# Altium integrated library ST Microcontroller 8-Bit.IntLib: 1326 symbols (part 9 of 31)
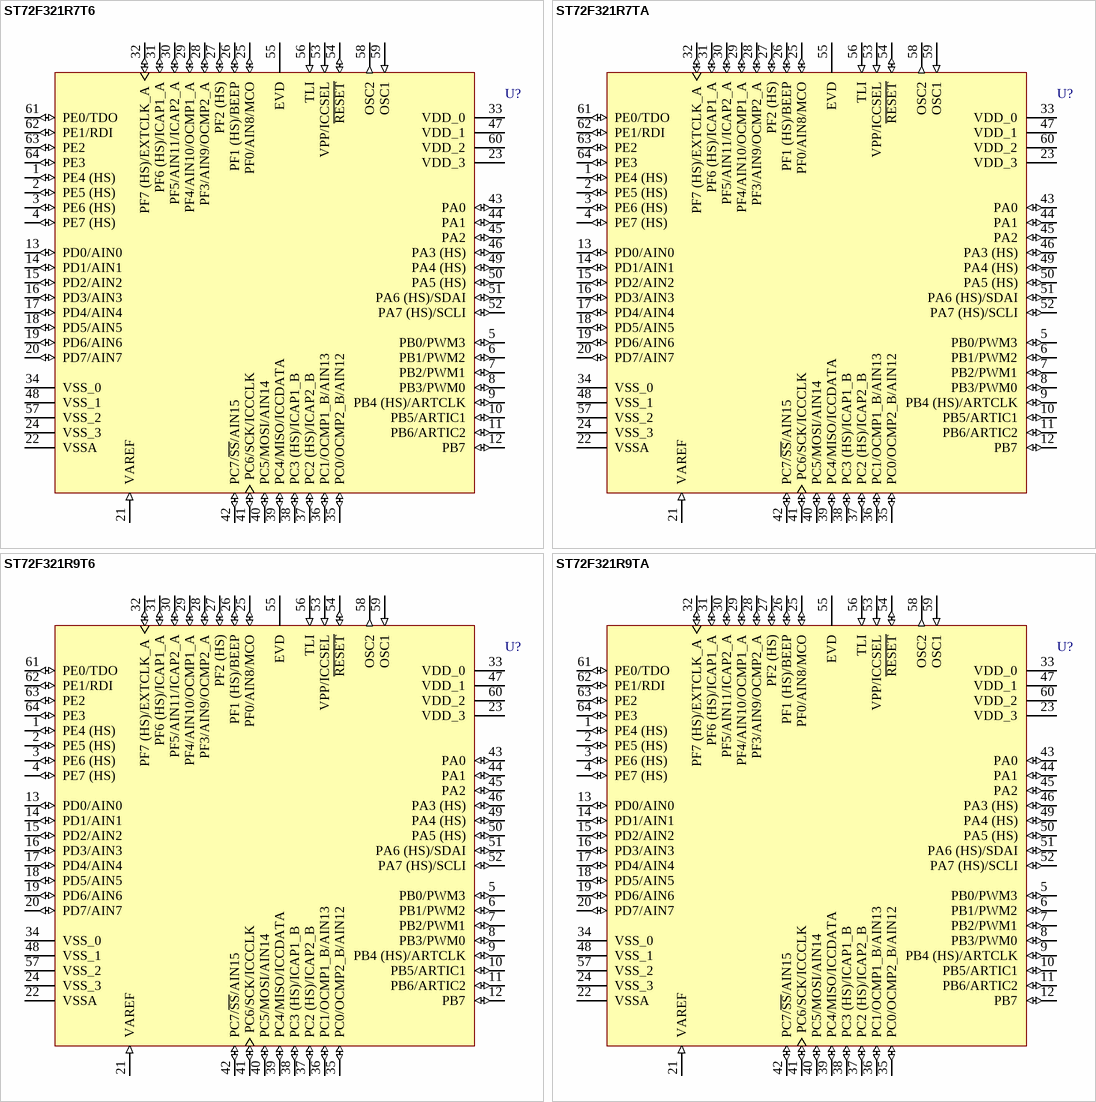
[diagram p175: symbols ST72F321R7T6 to ST72F321R9TA]

## ST72F321R7TA
designator U?
8-Bit 48k FLASH MCU with Nested Interrupts, 1536b RAM, 10-Bit ADC, Five Timers, SPI, SCI and I²C Interfaces, 64-Pin TQFP, Automotive; PackageDocument: rev2.4, Jan-2002; Note: Pins 5-12, 25-27 and 43-46 are External Interrupt (EI) pins.; Published: 26-May-2004; DatasheetDocument: rev1.9, Aug-2003; PackageReference: TQFP64-0.8; Publisher: Altium Limited
footprint TQFP64-0.8 (QFP, Thin; 64 Leads; Body 14 x 14 mm; Pitch 0.8 mm)
pins: 1 PE4 (HS) (io), 2 PE5 (HS) (io), 3 PE6 (HS) (io), 4 PE7 (HS) (io), 5 PB0/PWM3 (io), 6 PB1/PWM2 (io), 7 PB2/PWM1 (io), 8 PB3/PWM0 (io), 9 PB4 (HS)/ARTCLK (io), 10 PB5/ARTIC1 (io), 11 PB6/ARTIC2 (io), 12 PB7 (io), 13 PD0/AIN0 (io), 14 PD1/AIN1 (io), 15 PD2/AIN2 (io), 16 PD3/AIN3 (io), 17 PD4/AIN4 (io), 18 PD5/AIN5 (io), 19 PD6/AIN6 (io), 20 PD7/AIN7 (io), 21 VAREF (in), 22 VSSA (power), 23 VDD_3 (power), 24 VSS_3 (power), 25 PF0/AIN8/MCO (io), 26 PF1 (HS)/BEEP (io), 27 PF2 (HS) (io), 28 PF3/AIN9/OCMP2_A (io), 29 PF4/AIN10/OCMP1_A (io), 30 PF5/AIN11/ICAP2_A (io), 31 PF6 (HS)/ICAP1_A (io), 32 PF7 (HS)/EXTCLK_A (io), 33 VDD_0 (power), 34 VSS_0 (power), 35 PC0/OCMP2_B/AIN12 (io), 36 PC1/OCMP1_B/AIN13 (io), 37 PC2 (HS)/ICAP2_B (io), 38 PC3 (HS)/ICAP1_B (io), 39 PC4/MISO/ICCDATA (io), 40 PC5/MOSI/AIN14 (io), 41 PC6/SCK/ICCCLK (io), 42 PC7/~{SS}/AIN15 (io), 43 PA0 (io), 44 PA1 (io), 45 PA2 (io), 46 PA3 (HS) (io), 47 VDD_1 (power), 48 VSS_1 (power), 49 PA4 (HS) (io), 50 PA5 (HS) (io), 51 PA6 (HS)/SDAI (io), 52 PA7 (HS)/SCLI (io), 53 VPP/ICCSEL (in), 54 ~{RESET} (io), 55 EVD, 56 TLI (in), 57 VSS_2 (power), 58 OSC2 (out), 59 OSC1 (in), 60 VDD_2 (power), 61 PE0/TDO (io), 62 PE1/RDI (io), 63 PE2 (io), 64 PE3 (io)

## ST72F321R9T6
designator U?
8-Bit 60k FLASH MCU with Nested Interrupts, 2048b RAM, 10-Bit ADC, Five Timers, SPI, SCI and I²C Interfaces, 64-Pin TQFP, Standard; PackageDocument: rev2.4, Jan-2002; Note: Pins 5-12, 25-27 and 43-46 are External Interrupt (EI) pins.; Published: 26-May-2004; DatasheetDocument: rev1.9, Aug-2003; PackageReference: TQFP64-0.8; Publisher: Altium Limited
footprint TQFP64-0.8 (QFP, Thin; 64 Leads; Body 14 x 14 mm; Pitch 0.8 mm)
pins: 1 PE4 (HS) (io), 2 PE5 (HS) (io), 3 PE6 (HS) (io), 4 PE7 (HS) (io), 5 PB0/PWM3 (io), 6 PB1/PWM2 (io), 7 PB2/PWM1 (io), 8 PB3/PWM0 (io), 9 PB4 (HS)/ARTCLK (io), 10 PB5/ARTIC1 (io), 11 PB6/ARTIC2 (io), 12 PB7 (io), 13 PD0/AIN0 (io), 14 PD1/AIN1 (io), 15 PD2/AIN2 (io), 16 PD3/AIN3 (io), 17 PD4/AIN4 (io), 18 PD5/AIN5 (io), 19 PD6/AIN6 (io), 20 PD7/AIN7 (io), 21 VAREF (in), 22 VSSA (power), 23 VDD_3 (power), 24 VSS_3 (power), 25 PF0/AIN8/MCO (io), 26 PF1 (HS)/BEEP (io), 27 PF2 (HS) (io), 28 PF3/AIN9/OCMP2_A (io), 29 PF4/AIN10/OCMP1_A (io), 30 PF5/AIN11/ICAP2_A (io), 31 PF6 (HS)/ICAP1_A (io), 32 PF7 (HS)/EXTCLK_A (io), 33 VDD_0 (power), 34 VSS_0 (power), 35 PC0/OCMP2_B/AIN12 (io), 36 PC1/OCMP1_B/AIN13 (io), 37 PC2 (HS)/ICAP2_B (io), 38 PC3 (HS)/ICAP1_B (io), 39 PC4/MISO/ICCDATA (io), 40 PC5/MOSI/AIN14 (io), 41 PC6/SCK/ICCCLK (io), 42 PC7/~{SS}/AIN15 (io), 43 PA0 (io), 44 PA1 (io), 45 PA2 (io), 46 PA3 (HS) (io), 47 VDD_1 (power), 48 VSS_1 (power), 49 PA4 (HS) (io), 50 PA5 (HS) (io), 51 PA6 (HS)/SDAI (io), 52 PA7 (HS)/SCLI (io), 53 VPP/ICCSEL (in), 54 ~{RESET} (io), 55 EVD, 56 TLI (in), 57 VSS_2 (power), 58 OSC2 (out), 59 OSC1 (in), 60 VDD_2 (power), 61 PE0/TDO (io), 62 PE1/RDI (io), 63 PE2 (io), 64 PE3 (io)

## ST72F321R9TA
designator U?
8-Bit 60k FLASH MCU with Nested Interrupts, 2048b RAM, 10-Bit ADC, Five Timers, SPI, SCI and I²C Interfaces, 64-Pin TQFP, Automotive; PackageDocument: rev2.4, Jan-2002; Note: Pins 5-12, 25-27 and 43-46 are External Interrupt (EI) pins.; Published: 26-May-2004; DatasheetDocument: rev1.9, Aug-2003; PackageReference: TQFP64-0.8; Publisher: Altium Limited
footprint TQFP64-0.8 (QFP, Thin; 64 Leads; Body 14 x 14 mm; Pitch 0.8 mm)
pins: 1 PE4 (HS) (io), 2 PE5 (HS) (io), 3 PE6 (HS) (io), 4 PE7 (HS) (io), 5 PB0/PWM3 (io), 6 PB1/PWM2 (io), 7 PB2/PWM1 (io), 8 PB3/PWM0 (io), 9 PB4 (HS)/ARTCLK (io), 10 PB5/ARTIC1 (io), 11 PB6/ARTIC2 (io), 12 PB7 (io), 13 PD0/AIN0 (io), 14 PD1/AIN1 (io), 15 PD2/AIN2 (io), 16 PD3/AIN3 (io), 17 PD4/AIN4 (io), 18 PD5/AIN5 (io), 19 PD6/AIN6 (io), 20 PD7/AIN7 (io), 21 VAREF (in), 22 VSSA (power), 23 VDD_3 (power), 24 VSS_3 (power), 25 PF0/AIN8/MCO (io), 26 PF1 (HS)/BEEP (io), 27 PF2 (HS) (io), 28 PF3/AIN9/OCMP2_A (io), 29 PF4/AIN10/OCMP1_A (io), 30 PF5/AIN11/ICAP2_A (io), 31 PF6 (HS)/ICAP1_A (io), 32 PF7 (HS)/EXTCLK_A (io), 33 VDD_0 (power), 34 VSS_0 (power), 35 PC0/OCMP2_B/AIN12 (io), 36 PC1/OCMP1_B/AIN13 (io), 37 PC2 (HS)/ICAP2_B (io), 38 PC3 (HS)/ICAP1_B (io), 39 PC4/MISO/ICCDATA (io), 40 PC5/MOSI/AIN14 (io), 41 PC6/SCK/ICCCLK (io), 42 PC7/~{SS}/AIN15 (io), 43 PA0 (io), 44 PA1 (io), 45 PA2 (io), 46 PA3 (HS) (io), 47 VDD_1 (power), 48 VSS_1 (power), 49 PA4 (HS) (io), 50 PA5 (HS) (io), 51 PA6 (HS)/SDAI (io), 52 PA7 (HS)/SCLI (io), 53 VPP/ICCSEL (in), 54 ~{RESET} (io), 55 EVD, 56 TLI (in), 57 VSS_2 (power), 58 OSC2 (out), 59 OSC1 (in), 60 VDD_2 (power), 61 PE0/TDO (io), 62 PE1/RDI (io), 63 PE2 (io), 64 PE3 (io)

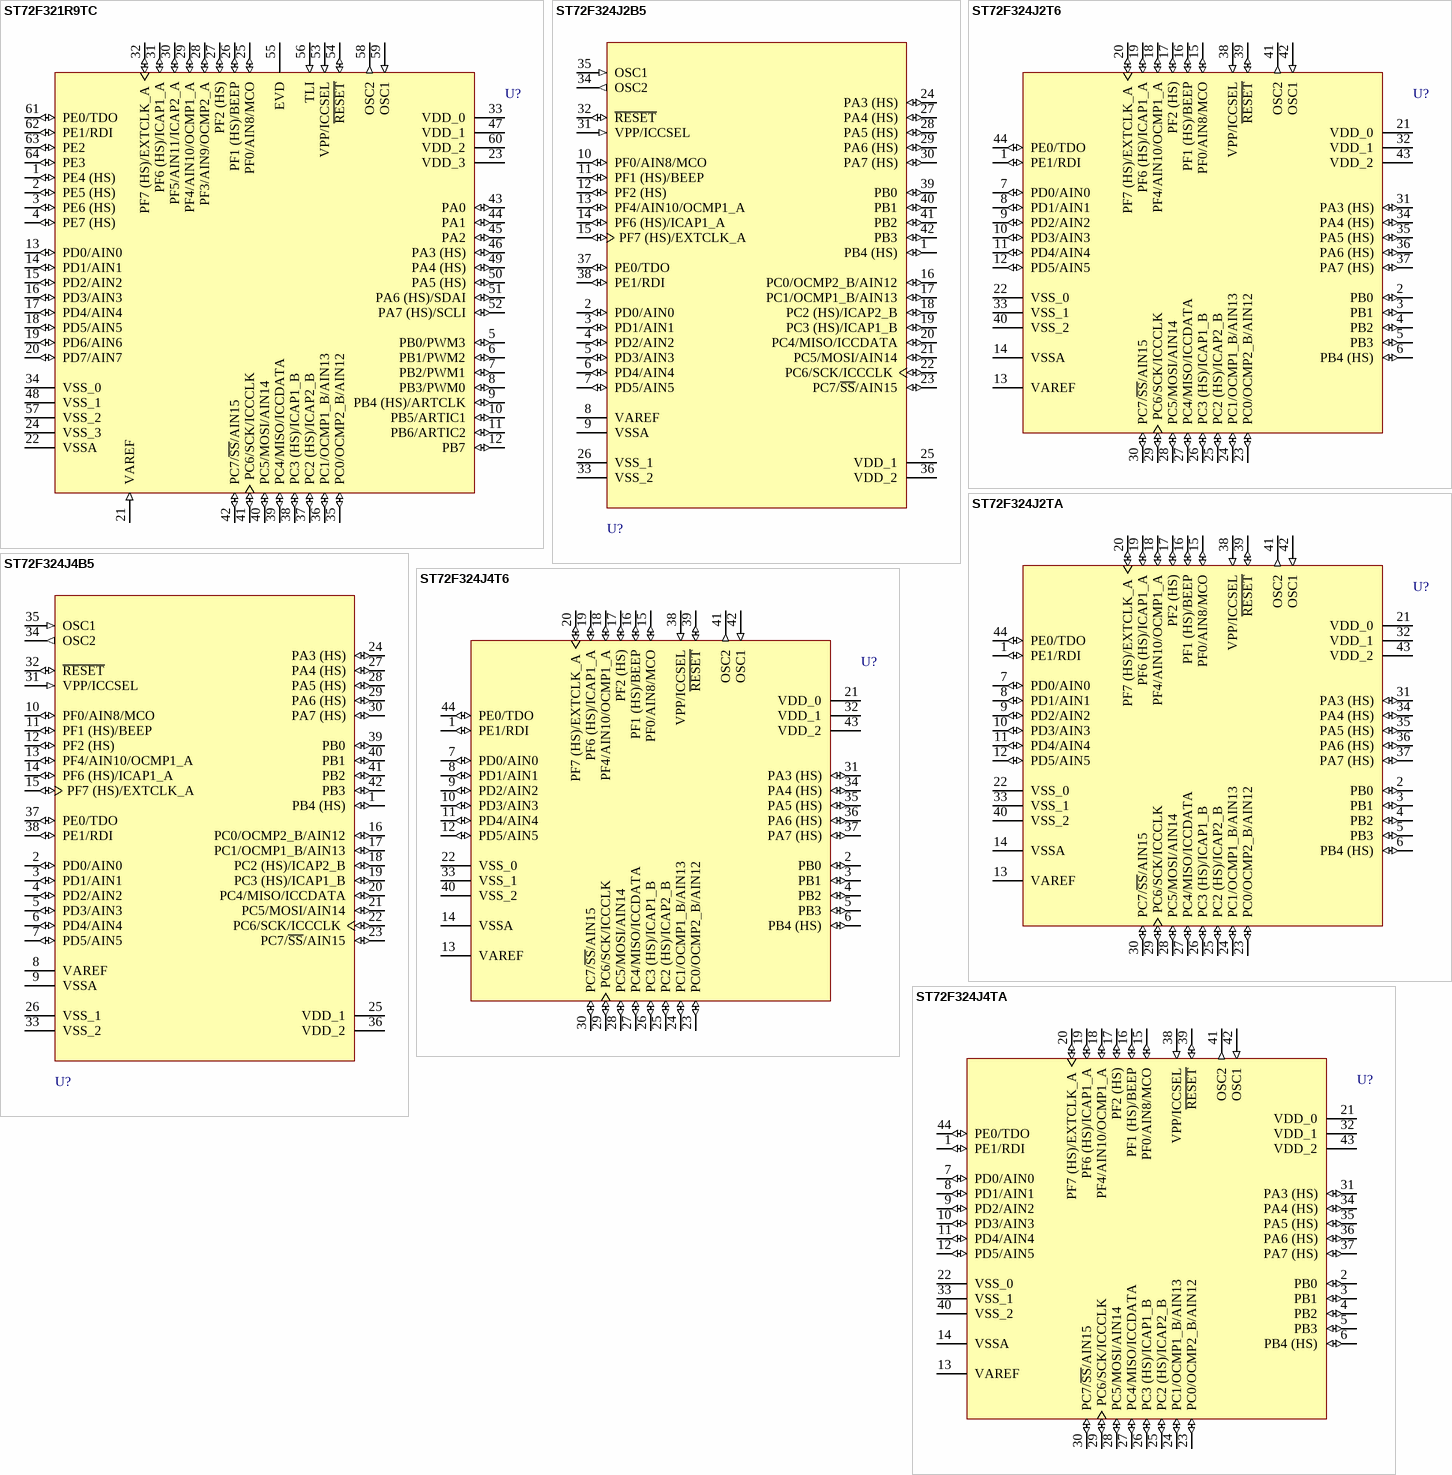
[diagram p39: symbols ST72F321R9TC to ST72F324J4TA]

## ST72F321R9TC
designator U?
8-Bit 60k FLASH MCU with Nested Interrupts, 2048b RAM, 10-Bit ADC, Five Timers, SPI, SCI and I²C Interfaces, 64-Pin TQFP, Automotive; PackageDocument: rev2.4, Jan-2002; Note: Pins 5-12, 25-27 and 43-46 are External Interrupt (EI) pins.; Published: 26-May-2004; DatasheetDocument: rev1.9, Aug-2003; PackageReference: TQFP64-0.8; Publisher: Altium Limited
footprint TQFP64-0.8 (QFP, Thin; 64 Leads; Body 14 x 14 mm; Pitch 0.8 mm)
pins: 1 PE4 (HS) (io), 2 PE5 (HS) (io), 3 PE6 (HS) (io), 4 PE7 (HS) (io), 5 PB0/PWM3 (io), 6 PB1/PWM2 (io), 7 PB2/PWM1 (io), 8 PB3/PWM0 (io), 9 PB4 (HS)/ARTCLK (io), 10 PB5/ARTIC1 (io), 11 PB6/ARTIC2 (io), 12 PB7 (io), 13 PD0/AIN0 (io), 14 PD1/AIN1 (io), 15 PD2/AIN2 (io), 16 PD3/AIN3 (io), 17 PD4/AIN4 (io), 18 PD5/AIN5 (io), 19 PD6/AIN6 (io), 20 PD7/AIN7 (io), 21 VAREF (in), 22 VSSA (power), 23 VDD_3 (power), 24 VSS_3 (power), 25 PF0/AIN8/MCO (io), 26 PF1 (HS)/BEEP (io), 27 PF2 (HS) (io), 28 PF3/AIN9/OCMP2_A (io), 29 PF4/AIN10/OCMP1_A (io), 30 PF5/AIN11/ICAP2_A (io), 31 PF6 (HS)/ICAP1_A (io), 32 PF7 (HS)/EXTCLK_A (io), 33 VDD_0 (power), 34 VSS_0 (power), 35 PC0/OCMP2_B/AIN12 (io), 36 PC1/OCMP1_B/AIN13 (io), 37 PC2 (HS)/ICAP2_B (io), 38 PC3 (HS)/ICAP1_B (io), 39 PC4/MISO/ICCDATA (io), 40 PC5/MOSI/AIN14 (io), 41 PC6/SCK/ICCCLK (io), 42 PC7/~{SS}/AIN15 (io), 43 PA0 (io), 44 PA1 (io), 45 PA2 (io), 46 PA3 (HS) (io), 47 VDD_1 (power), 48 VSS_1 (power), 49 PA4 (HS) (io), 50 PA5 (HS) (io), 51 PA6 (HS)/SDAI (io), 52 PA7 (HS)/SCLI (io), 53 VPP/ICCSEL (in), 54 ~{RESET} (io), 55 EVD, 56 TLI (in), 57 VSS_2 (power), 58 OSC2 (out), 59 OSC1 (in), 60 VDD_2 (power), 61 PE0/TDO (io), 62 PE1/RDI (io), 63 PE2 (io), 64 PE3 (io)

## ST72F324J2B5
designator U?
8-Bit 8k Flash MCU with Nested Interrupts, 384b RAM, 10-Bit ADC, Four Timers, SPI and SCI Interfaces, 42-Pin PDIP, Standard; Note: Pins 1, 6, 7, 19, 31 and 32 are External Interrupt (EI) pins.; Published: 26-May-2004; DatasheetDocument: rev1.9, Aug-2003; PackageDocument: Oct-2003; PackageReference: PSDIP42; Publisher: Altium Limited
footprint PSDIP42 (DIP, Plastic Shrink; 42 Leads; Row Spacing 15.24 mm; Pitch 1.78 mm)
pins: 1 PB4 (HS) (io), 2 PD0/AIN0 (io), 3 PD1/AIN1 (io), 4 PD2/AIN2 (io), 5 PD3/AIN3 (io), 6 PD4/AIN4 (io), 7 PD5/AIN5 (io), 8 VAREF (power), 9 VSSA (power), 10 PF0/AIN8/MCO (io), 11 PF1 (HS)/BEEP (io), 12 PF2 (HS) (io), 13 PF4/AIN10/OCMP1_A (io), 14 PF6 (HS)/ICAP1_A (io), 15 PF7 (HS)/EXTCLK_A (io), 16 PC0/OCMP2_B/AIN12 (io), 17 PC1/OCMP1_B/AIN13 (io), 18 PC2 (HS)/ICAP2_B (io), 19 PC3 (HS)/ICAP1_B (io), 20 PC4/MISO/ICCDATA (io), 21 PC5/MOSI/AIN14 (io), 22 PC6/SCK/ICCCLK (io), 23 PC7/~{SS}/AIN15 (io), 24 PA3 (HS) (io), 25 VDD_1 (power), 26 VSS_1 (power), 27 PA4 (HS) (io), 28 PA5 (HS) (io), 29 PA6 (HS) (io), 30 PA7 (HS) (io), 31 VPP/ICCSEL (in), 32 ~{RESET} (io), 33 VSS_2 (power), 34 OSC2 (out), 35 OSC1 (in), 36 VDD_2 (power), 37 PE0/TDO (io), 38 PE1/RDI (io), 39 PB0 (io), 40 PB1 (io), 41 PB2 (io), 42 PB3 (io)

## ST72F324J2T6
designator U?
8-Bit 8k Flash MCU with Nested Interrupts, 384b RAM, 10-Bit ADC, Four Timers, SPI and SCI Interfaces, 44-Pin TQFP, Standard; Note: Pins 2-6, 15-17 and 31 are External Interrupt (EI) pins.; Published: 26-May-2004; DatasheetDocument: rev1.9, Aug-2003; PackageDocument: Oct-2003; PackageReference: TQFP44; Publisher: Altium Limited
footprint TQFP44 (QFP, Plastic, Thin; 44 Leads; Body 10 x 10 mm; Pitch 0.8 mm)
pins: 1 PE1/RDI (io), 2 PB0 (io), 3 PB1 (io), 4 PB2 (io), 5 PB3 (io), 6 PB4 (HS) (io), 7 PD0/AIN0 (io), 8 PD1/AIN1 (io), 9 PD2/AIN2 (io), 10 PD3/AIN3 (io), 11 PD4/AIN4 (io), 12 PD5/AIN5 (io), 13 VAREF (power), 14 VSSA (power), 15 PF0/AIN8/MCO (io), 16 PF1 (HS)/BEEP (io), 17 PF2 (HS) (io), 18 PF4/AIN10/OCMP1_A (io), 19 PF6 (HS)/ICAP1_A (io), 20 PF7 (HS)/EXTCLK_A (io), 21 VDD_0 (power), 22 VSS_0 (power), 23 PC0/OCMP2_B/AIN12 (io), 24 PC1/OCMP1_B/AIN13 (io), 25 PC2 (HS)/ICAP2_B (io), 26 PC3 (HS)/ICAP1_B (io), 27 PC4/MISO/ICCDATA (io), 28 PC5/MOSI/AIN14 (io), 29 PC6/SCK/ICCCLK (io), 30 PC7/~{SS}/AIN15 (io), 31 PA3 (HS) (io), 32 VDD_1 (power), 33 VSS_1 (power), 34 PA4 (HS) (io), 35 PA5 (HS) (io), 36 PA6 (HS) (io), 37 PA7 (HS) (io), 38 VPP/ICCSEL (in), 39 ~{RESET} (io), 40 VSS_2 (power), 41 OSC2 (out), 42 OSC1 (in), 43 VDD_2 (power), 44 PE0/TDO (io)

## ST72F324J2TA
designator U?
8-Bit 8k Flash MCU with Nested Interrupts, 384b RAM, 10-Bit ADC, Four Timers, SPI and SCI Interfaces, 44-Pin TQFP, Automotive; Note: Pins 2-6, 15-17 and 31 are External Interrupt (EI) pins.; Published: 26-May-2004; DatasheetDocument: rev1.9, Aug-2003; PackageDocument: Oct-2003; PackageReference: TQFP44; Publisher: Altium Limited
footprint TQFP44 (QFP, Plastic, Thin; 44 Leads; Body 10 x 10 mm; Pitch 0.8 mm)
pins: 1 PE1/RDI (io), 2 PB0 (io), 3 PB1 (io), 4 PB2 (io), 5 PB3 (io), 6 PB4 (HS) (io), 7 PD0/AIN0 (io), 8 PD1/AIN1 (io), 9 PD2/AIN2 (io), 10 PD3/AIN3 (io), 11 PD4/AIN4 (io), 12 PD5/AIN5 (io), 13 VAREF (power), 14 VSSA (power), 15 PF0/AIN8/MCO (io), 16 PF1 (HS)/BEEP (io), 17 PF2 (HS) (io), 18 PF4/AIN10/OCMP1_A (io), 19 PF6 (HS)/ICAP1_A (io), 20 PF7 (HS)/EXTCLK_A (io), 21 VDD_0 (power), 22 VSS_0 (power), 23 PC0/OCMP2_B/AIN12 (io), 24 PC1/OCMP1_B/AIN13 (io), 25 PC2 (HS)/ICAP2_B (io), 26 PC3 (HS)/ICAP1_B (io), 27 PC4/MISO/ICCDATA (io), 28 PC5/MOSI/AIN14 (io), 29 PC6/SCK/ICCCLK (io), 30 PC7/~{SS}/AIN15 (io), 31 PA3 (HS) (io), 32 VDD_1 (power), 33 VSS_1 (power), 34 PA4 (HS) (io), 35 PA5 (HS) (io), 36 PA6 (HS) (io), 37 PA7 (HS) (io), 38 VPP/ICCSEL (in), 39 ~{RESET} (io), 40 VSS_2 (power), 41 OSC2 (out), 42 OSC1 (in), 43 VDD_2 (power), 44 PE0/TDO (io)

## ST72F324J4B5
designator U?
8-Bit 16k Flash MCU with Nested Interrupts, 512b RAM, 10-Bit ADC, Four Timers, SPI and SCI Interfaces, 42-Pin PDIP, Standard; Note: Pins 1, 6, 7, 19, 31 and 32 are External Interrupt (EI) pins.; Published: 26-May-2004; DatasheetDocument: rev1.9, Aug-2003; PackageDocument: Oct-2003; PackageReference: PSDIP42; Publisher: Altium Limited
footprint PSDIP42 (DIP, Plastic Shrink; 42 Leads; Row Spacing 15.24 mm; Pitch 1.78 mm)
pins: 1 PB4 (HS) (io), 2 PD0/AIN0 (io), 3 PD1/AIN1 (io), 4 PD2/AIN2 (io), 5 PD3/AIN3 (io), 6 PD4/AIN4 (io), 7 PD5/AIN5 (io), 8 VAREF (power), 9 VSSA (power), 10 PF0/AIN8/MCO (io), 11 PF1 (HS)/BEEP (io), 12 PF2 (HS) (io), 13 PF4/AIN10/OCMP1_A (io), 14 PF6 (HS)/ICAP1_A (io), 15 PF7 (HS)/EXTCLK_A (io), 16 PC0/OCMP2_B/AIN12 (io), 17 PC1/OCMP1_B/AIN13 (io), 18 PC2 (HS)/ICAP2_B (io), 19 PC3 (HS)/ICAP1_B (io), 20 PC4/MISO/ICCDATA (io), 21 PC5/MOSI/AIN14 (io), 22 PC6/SCK/ICCCLK (io), 23 PC7/~{SS}/AIN15 (io), 24 PA3 (HS) (io), 25 VDD_1 (power), 26 VSS_1 (power), 27 PA4 (HS) (io), 28 PA5 (HS) (io), 29 PA6 (HS) (io), 30 PA7 (HS) (io), 31 VPP/ICCSEL (in), 32 ~{RESET} (io), 33 VSS_2 (power), 34 OSC2 (out), 35 OSC1 (in), 36 VDD_2 (power), 37 PE0/TDO (io), 38 PE1/RDI (io), 39 PB0 (io), 40 PB1 (io), 41 PB2 (io), 42 PB3 (io)

## ST72F324J4T6
designator U?
8-Bit 16k Flash MCU with Nested Interrupts, 512b RAM, 10-Bit ADC, Four Timers, SPI and SCI Interfaces, 44-Pin TQFP, Standard; Note: Pins 2-6, 15-17 and 31 are External Interrupt (EI) pins.; Published: 26-May-2004; DatasheetDocument: rev1.9, Aug-2003; PackageDocument: Oct-2003; PackageReference: TQFP44; Publisher: Altium Limited
footprint TQFP44 (QFP, Plastic, Thin; 44 Leads; Body 10 x 10 mm; Pitch 0.8 mm)
pins: 1 PE1/RDI (io), 2 PB0 (io), 3 PB1 (io), 4 PB2 (io), 5 PB3 (io), 6 PB4 (HS) (io), 7 PD0/AIN0 (io), 8 PD1/AIN1 (io), 9 PD2/AIN2 (io), 10 PD3/AIN3 (io), 11 PD4/AIN4 (io), 12 PD5/AIN5 (io), 13 VAREF (power), 14 VSSA (power), 15 PF0/AIN8/MCO (io), 16 PF1 (HS)/BEEP (io), 17 PF2 (HS) (io), 18 PF4/AIN10/OCMP1_A (io), 19 PF6 (HS)/ICAP1_A (io), 20 PF7 (HS)/EXTCLK_A (io), 21 VDD_0 (power), 22 VSS_0 (power), 23 PC0/OCMP2_B/AIN12 (io), 24 PC1/OCMP1_B/AIN13 (io), 25 PC2 (HS)/ICAP2_B (io), 26 PC3 (HS)/ICAP1_B (io), 27 PC4/MISO/ICCDATA (io), 28 PC5/MOSI/AIN14 (io), 29 PC6/SCK/ICCCLK (io), 30 PC7/~{SS}/AIN15 (io), 31 PA3 (HS) (io), 32 VDD_1 (power), 33 VSS_1 (power), 34 PA4 (HS) (io), 35 PA5 (HS) (io), 36 PA6 (HS) (io), 37 PA7 (HS) (io), 38 VPP/ICCSEL (in), 39 ~{RESET} (io), 40 VSS_2 (power), 41 OSC2 (out), 42 OSC1 (in), 43 VDD_2 (power), 44 PE0/TDO (io)

## ST72F324J4TA
designator U?
8-Bit 16k Flash MCU with Nested Interrupts, 512b RAM, 10-Bit ADC, Four Timers, SPI and SCI Interfaces, 44-Pin TQFP, Automotive; Note: Pins 2-6, 15-17 and 31 are External Interrupt (EI) pins.; Published: 26-May-2004; DatasheetDocument: rev1.9, Aug-2003; PackageDocument: Oct-2003; PackageReference: TQFP44; Publisher: Altium Limited
footprint TQFP44 (QFP, Plastic, Thin; 44 Leads; Body 10 x 10 mm; Pitch 0.8 mm)
pins: 1 PE1/RDI (io), 2 PB0 (io), 3 PB1 (io), 4 PB2 (io), 5 PB3 (io), 6 PB4 (HS) (io), 7 PD0/AIN0 (io), 8 PD1/AIN1 (io), 9 PD2/AIN2 (io), 10 PD3/AIN3 (io), 11 PD4/AIN4 (io), 12 PD5/AIN5 (io), 13 VAREF (power), 14 VSSA (power), 15 PF0/AIN8/MCO (io), 16 PF1 (HS)/BEEP (io), 17 PF2 (HS) (io), 18 PF4/AIN10/OCMP1_A (io), 19 PF6 (HS)/ICAP1_A (io), 20 PF7 (HS)/EXTCLK_A (io), 21 VDD_0 (power), 22 VSS_0 (power), 23 PC0/OCMP2_B/AIN12 (io), 24 PC1/OCMP1_B/AIN13 (io), 25 PC2 (HS)/ICAP2_B (io), 26 PC3 (HS)/ICAP1_B (io), 27 PC4/MISO/ICCDATA (io), 28 PC5/MOSI/AIN14 (io), 29 PC6/SCK/ICCCLK (io), 30 PC7/~{SS}/AIN15 (io), 31 PA3 (HS) (io), 32 VDD_1 (power), 33 VSS_1 (power), 34 PA4 (HS) (io), 35 PA5 (HS) (io), 36 PA6 (HS) (io), 37 PA7 (HS) (io), 38 VPP/ICCSEL (in), 39 ~{RESET} (io), 40 VSS_2 (power), 41 OSC2 (out), 42 OSC1 (in), 43 VDD_2 (power), 44 PE0/TDO (io)

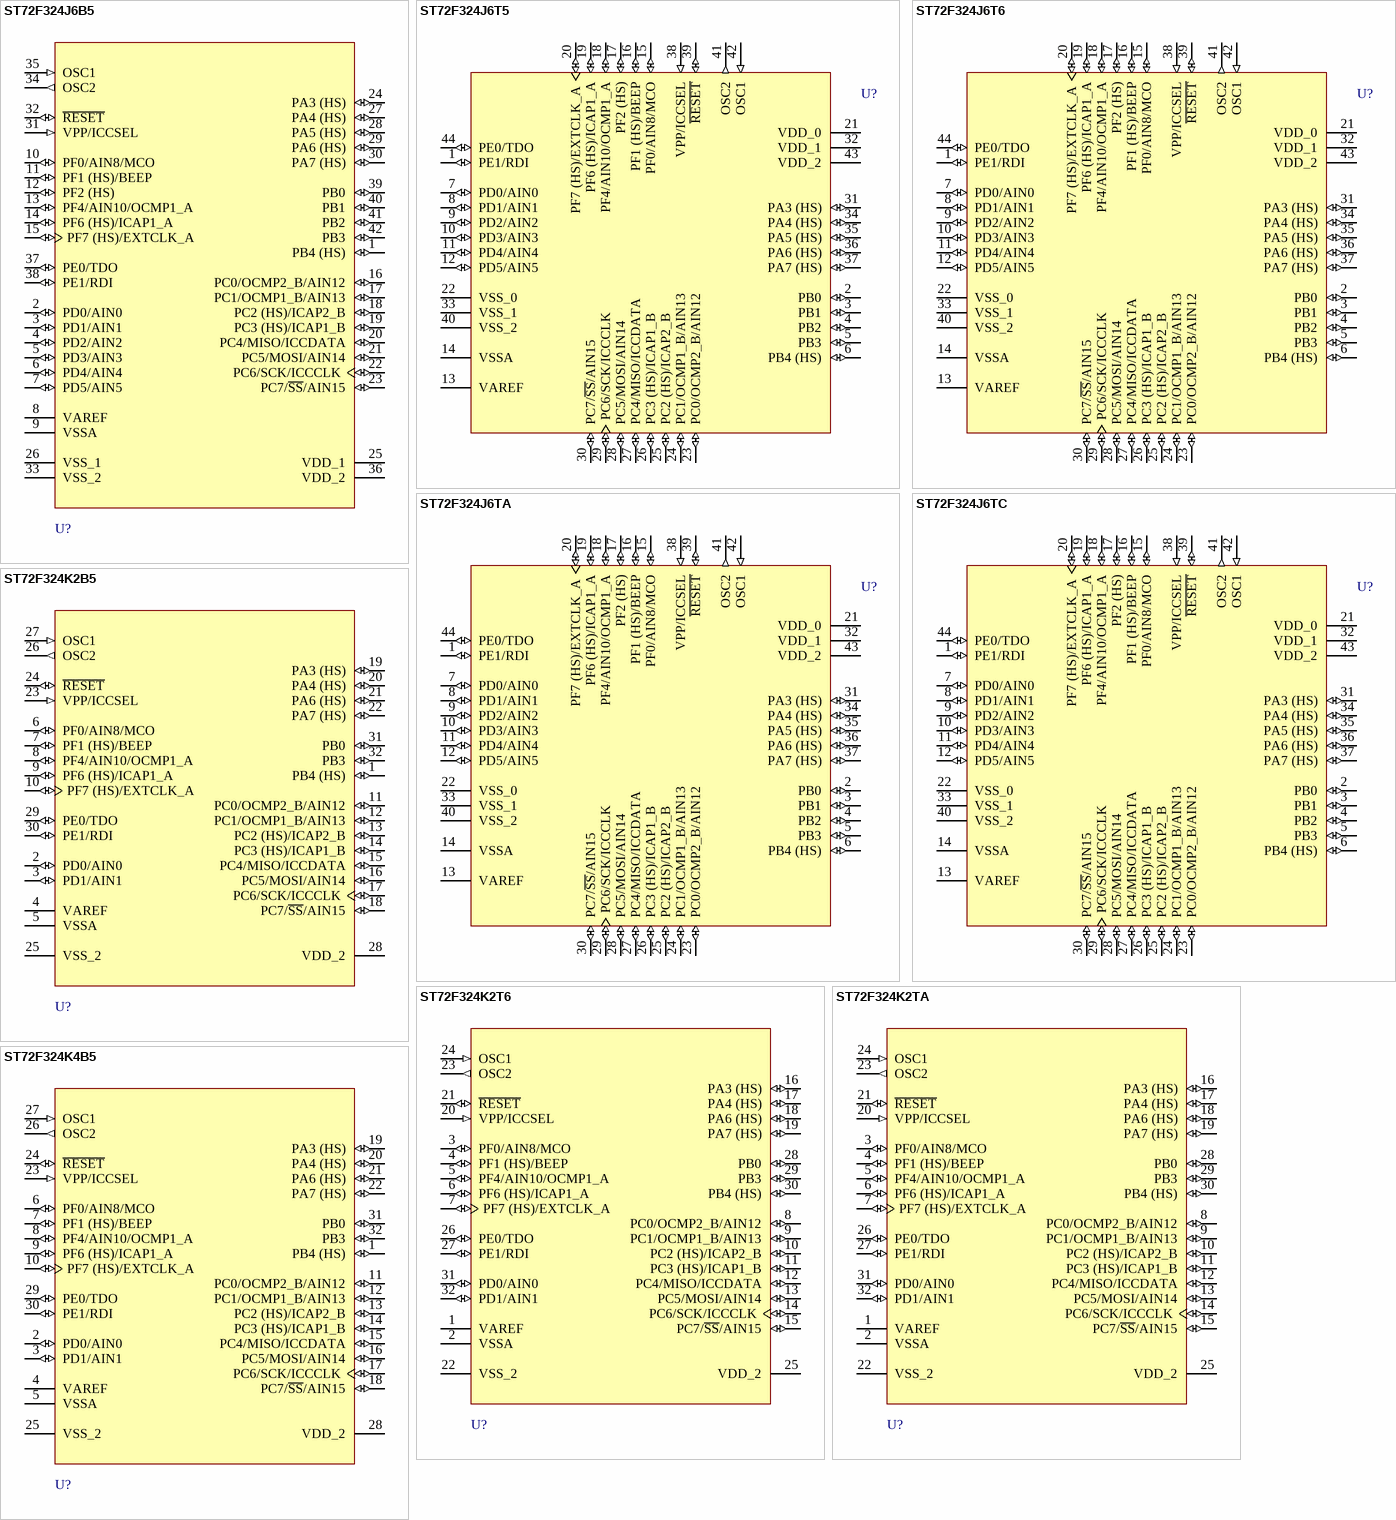
[diagram p40: symbols ST72F324J6B5 to ST72F324K4B5]

## ST72F324J6B5
designator U?
8-Bit 32k Flash MCU with Nested Interrupts, 1024b RAM, 10-Bit ADC, Four Timers, SPI and SCI Interfaces, 42-Pin PDIP, Standard; Note: Pins 1, 6, 7, 19, 31 and 32 are External Interrupt (EI) pins.; Published: 26-May-2004; DatasheetDocument: rev1.9, Aug-2003; PackageDocument: Oct-2003; PackageReference: PSDIP42; Publisher: Altium Limited
footprint PSDIP42 (DIP, Plastic Shrink; 42 Leads; Row Spacing 15.24 mm; Pitch 1.78 mm)
pins: 1 PB4 (HS) (io), 2 PD0/AIN0 (io), 3 PD1/AIN1 (io), 4 PD2/AIN2 (io), 5 PD3/AIN3 (io), 6 PD4/AIN4 (io), 7 PD5/AIN5 (io), 8 VAREF (power), 9 VSSA (power), 10 PF0/AIN8/MCO (io), 11 PF1 (HS)/BEEP (io), 12 PF2 (HS) (io), 13 PF4/AIN10/OCMP1_A (io), 14 PF6 (HS)/ICAP1_A (io), 15 PF7 (HS)/EXTCLK_A (io), 16 PC0/OCMP2_B/AIN12 (io), 17 PC1/OCMP1_B/AIN13 (io), 18 PC2 (HS)/ICAP2_B (io), 19 PC3 (HS)/ICAP1_B (io), 20 PC4/MISO/ICCDATA (io), 21 PC5/MOSI/AIN14 (io), 22 PC6/SCK/ICCCLK (io), 23 PC7/~{SS}/AIN15 (io), 24 PA3 (HS) (io), 25 VDD_1 (power), 26 VSS_1 (power), 27 PA4 (HS) (io), 28 PA5 (HS) (io), 29 PA6 (HS) (io), 30 PA7 (HS) (io), 31 VPP/ICCSEL (in), 32 ~{RESET} (io), 33 VSS_2 (power), 34 OSC2 (out), 35 OSC1 (in), 36 VDD_2 (power), 37 PE0/TDO (io), 38 PE1/RDI (io), 39 PB0 (io), 40 PB1 (io), 41 PB2 (io), 42 PB3 (io)

## ST72F324J6T5
designator U?
8-Bit 32k Flash MCU with Nested Interrupts, 1024b RAM, 10-Bit ADC, Four Timers, SPI and SCI Interfaces, 44-Pin TQFP, Standard; Note: Pins 2-6, 15-17 and 31 are External Interrupt (EI) pins.; Published: 26-May-2004; DatasheetDocument: rev1.9, Aug-2003; PackageDocument: Oct-2003; PackageReference: TQFP44; Publisher: Altium Limited
footprint TQFP44 (QFP, Plastic, Thin; 44 Leads; Body 10 x 10 mm; Pitch 0.8 mm)
pins: 1 PE1/RDI (io), 2 PB0 (io), 3 PB1 (io), 4 PB2 (io), 5 PB3 (io), 6 PB4 (HS) (io), 7 PD0/AIN0 (io), 8 PD1/AIN1 (io), 9 PD2/AIN2 (io), 10 PD3/AIN3 (io), 11 PD4/AIN4 (io), 12 PD5/AIN5 (io), 13 VAREF (power), 14 VSSA (power), 15 PF0/AIN8/MCO (io), 16 PF1 (HS)/BEEP (io), 17 PF2 (HS) (io), 18 PF4/AIN10/OCMP1_A (io), 19 PF6 (HS)/ICAP1_A (io), 20 PF7 (HS)/EXTCLK_A (io), 21 VDD_0 (power), 22 VSS_0 (power), 23 PC0/OCMP2_B/AIN12 (io), 24 PC1/OCMP1_B/AIN13 (io), 25 PC2 (HS)/ICAP2_B (io), 26 PC3 (HS)/ICAP1_B (io), 27 PC4/MISO/ICCDATA (io), 28 PC5/MOSI/AIN14 (io), 29 PC6/SCK/ICCCLK (io), 30 PC7/~{SS}/AIN15 (io), 31 PA3 (HS) (io), 32 VDD_1 (power), 33 VSS_1 (power), 34 PA4 (HS) (io), 35 PA5 (HS) (io), 36 PA6 (HS) (io), 37 PA7 (HS) (io), 38 VPP/ICCSEL (in), 39 ~{RESET} (io), 40 VSS_2 (power), 41 OSC2 (out), 42 OSC1 (in), 43 VDD_2 (power), 44 PE0/TDO (io)

## ST72F324J6T6
designator U?
8-Bit 32k Flash MCU with Nested Interrupts, 1024b RAM, 10-Bit ADC, Four Timers, SPI and SCI Interfaces, 44-Pin TQFP, Standard; Note: Pins 2-6, 15-17 and 31 are External Interrupt (EI) pins.; Published: 26-May-2004; DatasheetDocument: rev1.9, Aug-2003; PackageDocument: Oct-2003; PackageReference: TQFP44; Publisher: Altium Limited
footprint TQFP44 (QFP, Plastic, Thin; 44 Leads; Body 10 x 10 mm; Pitch 0.8 mm)
pins: 1 PE1/RDI (io), 2 PB0 (io), 3 PB1 (io), 4 PB2 (io), 5 PB3 (io), 6 PB4 (HS) (io), 7 PD0/AIN0 (io), 8 PD1/AIN1 (io), 9 PD2/AIN2 (io), 10 PD3/AIN3 (io), 11 PD4/AIN4 (io), 12 PD5/AIN5 (io), 13 VAREF (power), 14 VSSA (power), 15 PF0/AIN8/MCO (io), 16 PF1 (HS)/BEEP (io), 17 PF2 (HS) (io), 18 PF4/AIN10/OCMP1_A (io), 19 PF6 (HS)/ICAP1_A (io), 20 PF7 (HS)/EXTCLK_A (io), 21 VDD_0 (power), 22 VSS_0 (power), 23 PC0/OCMP2_B/AIN12 (io), 24 PC1/OCMP1_B/AIN13 (io), 25 PC2 (HS)/ICAP2_B (io), 26 PC3 (HS)/ICAP1_B (io), 27 PC4/MISO/ICCDATA (io), 28 PC5/MOSI/AIN14 (io), 29 PC6/SCK/ICCCLK (io), 30 PC7/~{SS}/AIN15 (io), 31 PA3 (HS) (io), 32 VDD_1 (power), 33 VSS_1 (power), 34 PA4 (HS) (io), 35 PA5 (HS) (io), 36 PA6 (HS) (io), 37 PA7 (HS) (io), 38 VPP/ICCSEL (in), 39 ~{RESET} (io), 40 VSS_2 (power), 41 OSC2 (out), 42 OSC1 (in), 43 VDD_2 (power), 44 PE0/TDO (io)

## ST72F324J6TA
designator U?
8-Bit 32k Flash MCU with Nested Interrupts, 1024b RAM, 10-Bit ADC, Four Timers, SPI and SCI Interfaces, 44-Pin TQFP, Automotive; Note: Pins 2-6, 15-17 and 31 are External Interrupt (EI) pins.; Published: 26-May-2004; DatasheetDocument: rev1.9, Aug-2003; PackageDocument: Oct-2003; PackageReference: TQFP44; Publisher: Altium Limited
footprint TQFP44 (QFP, Plastic, Thin; 44 Leads; Body 10 x 10 mm; Pitch 0.8 mm)
pins: 1 PE1/RDI (io), 2 PB0 (io), 3 PB1 (io), 4 PB2 (io), 5 PB3 (io), 6 PB4 (HS) (io), 7 PD0/AIN0 (io), 8 PD1/AIN1 (io), 9 PD2/AIN2 (io), 10 PD3/AIN3 (io), 11 PD4/AIN4 (io), 12 PD5/AIN5 (io), 13 VAREF (power), 14 VSSA (power), 15 PF0/AIN8/MCO (io), 16 PF1 (HS)/BEEP (io), 17 PF2 (HS) (io), 18 PF4/AIN10/OCMP1_A (io), 19 PF6 (HS)/ICAP1_A (io), 20 PF7 (HS)/EXTCLK_A (io), 21 VDD_0 (power), 22 VSS_0 (power), 23 PC0/OCMP2_B/AIN12 (io), 24 PC1/OCMP1_B/AIN13 (io), 25 PC2 (HS)/ICAP2_B (io), 26 PC3 (HS)/ICAP1_B (io), 27 PC4/MISO/ICCDATA (io), 28 PC5/MOSI/AIN14 (io), 29 PC6/SCK/ICCCLK (io), 30 PC7/~{SS}/AIN15 (io), 31 PA3 (HS) (io), 32 VDD_1 (power), 33 VSS_1 (power), 34 PA4 (HS) (io), 35 PA5 (HS) (io), 36 PA6 (HS) (io), 37 PA7 (HS) (io), 38 VPP/ICCSEL (in), 39 ~{RESET} (io), 40 VSS_2 (power), 41 OSC2 (out), 42 OSC1 (in), 43 VDD_2 (power), 44 PE0/TDO (io)

## ST72F324J6TC
designator U?
8-Bit 32k Flash MCU with Nested Interrupts, 1024b RAM, 10-Bit ADC, Four Timers, SPI and SCI Interfaces, 44-Pin TQFP, Automotive; Note: Pins 2-6, 15-17 and 31 are External Interrupt (EI) pins.; Published: 26-May-2004; DatasheetDocument: rev1.9, Aug-2003; PackageDocument: Oct-2003; PackageReference: TQFP44; Publisher: Altium Limited
footprint TQFP44 (QFP, Plastic, Thin; 44 Leads; Body 10 x 10 mm; Pitch 0.8 mm)
pins: 1 PE1/RDI (io), 2 PB0 (io), 3 PB1 (io), 4 PB2 (io), 5 PB3 (io), 6 PB4 (HS) (io), 7 PD0/AIN0 (io), 8 PD1/AIN1 (io), 9 PD2/AIN2 (io), 10 PD3/AIN3 (io), 11 PD4/AIN4 (io), 12 PD5/AIN5 (io), 13 VAREF (power), 14 VSSA (power), 15 PF0/AIN8/MCO (io), 16 PF1 (HS)/BEEP (io), 17 PF2 (HS) (io), 18 PF4/AIN10/OCMP1_A (io), 19 PF6 (HS)/ICAP1_A (io), 20 PF7 (HS)/EXTCLK_A (io), 21 VDD_0 (power), 22 VSS_0 (power), 23 PC0/OCMP2_B/AIN12 (io), 24 PC1/OCMP1_B/AIN13 (io), 25 PC2 (HS)/ICAP2_B (io), 26 PC3 (HS)/ICAP1_B (io), 27 PC4/MISO/ICCDATA (io), 28 PC5/MOSI/AIN14 (io), 29 PC6/SCK/ICCCLK (io), 30 PC7/~{SS}/AIN15 (io), 31 PA3 (HS) (io), 32 VDD_1 (power), 33 VSS_1 (power), 34 PA4 (HS) (io), 35 PA5 (HS) (io), 36 PA6 (HS) (io), 37 PA7 (HS) (io), 38 VPP/ICCSEL (in), 39 ~{RESET} (io), 40 VSS_2 (power), 41 OSC2 (out), 42 OSC1 (in), 43 VDD_2 (power), 44 PE0/TDO (io)

## ST72F324K2B5
designator U?
8-Bit 8k Flash MCU with Nested Interrupts, 384b RAM, 10-Bit ADC, Four Timers, SPI and SCI Interfaces, 32-Pin PDIP, Standard; PackageDocument: rev1.7, Oct-2001; Note: Pins 1, 6, 7, 19, 31 and 32 are External Interrupt (EI) pins.; Published: 26-May-2004; DatasheetDocument: rev1.9, Aug-2003; PackageReference: PSDIP32; Publisher: Altium Limited
footprint PSDIP32 (DIP, Plastic Shrink; 32 Leads; Row Spacing 10.16 mm; Pitch 1.78 mm)
pins: 1 PB4 (HS) (io), 2 PD0/AIN0 (io), 3 PD1/AIN1 (io), 4 VAREF (power), 5 VSSA (power), 6 PF0/AIN8/MCO (io), 7 PF1 (HS)/BEEP (io), 8 PF4/AIN10/OCMP1_A (io), 9 PF6 (HS)/ICAP1_A (io), 10 PF7 (HS)/EXTCLK_A (io), 11 PC0/OCMP2_B/AIN12 (io), 12 PC1/OCMP1_B/AIN13 (io), 13 PC2 (HS)/ICAP2_B (io), 14 PC3 (HS)/ICAP1_B (io), 15 PC4/MISO/ICCDATA (io), 16 PC5/MOSI/AIN14 (io), 17 PC6/SCK/ICCCLK (io), 18 PC7/~{SS}/AIN15 (io), 19 PA3 (HS) (io), 20 PA4 (HS) (io), 21 PA6 (HS) (io), 22 PA7 (HS) (io), 23 VPP/ICCSEL (in), 24 ~{RESET} (io), 25 VSS_2 (power), 26 OSC2 (out), 27 OSC1 (in), 28 VDD_2 (power), 29 PE0/TDO (io), 30 PE1/RDI (io), 31 PB0 (io), 32 PB3 (io)

## ST72F324K2T6
designator U?
8-Bit 8k Flash MCU with Nested Interrupts, 384b RAM, 10-Bit ADC, Four Timers, SPI and SCI Interfaces, 32-Pin TQFP, Standard; Note: Pins 3, 4, 16 and 28-30 are External Interrupt (EI) pins.; Published: 26-May-2004; DatasheetDocument: rev1.9, Aug-2003; PackageDocument: Oct-1997; PackageReference: TQFP32; Publisher: Altium Limited
footprint TQFP32 (QFP; 32 Leads; Body 7 x 7 mm; Pitch 0.8 mm)
pins: 1 VAREF (power), 2 VSSA (power), 3 PF0/AIN8/MCO (io), 4 PF1 (HS)/BEEP (io), 5 PF4/AIN10/OCMP1_A (io), 6 PF6 (HS)/ICAP1_A (io), 7 PF7 (HS)/EXTCLK_A (io), 8 PC0/OCMP2_B/AIN12 (io), 9 PC1/OCMP1_B/AIN13 (io), 10 PC2 (HS)/ICAP2_B (io), 11 PC3 (HS)/ICAP1_B (io), 12 PC4/MISO/ICCDATA (io), 13 PC5/MOSI/AIN14 (io), 14 PC6/SCK/ICCCLK (io), 15 PC7/~{SS}/AIN15 (io), 16 PA3 (HS) (io), 17 PA4 (HS) (io), 18 PA6 (HS) (io), 19 PA7 (HS) (io), 20 VPP/ICCSEL (in), 21 ~{RESET} (io), 22 VSS_2 (power), 23 OSC2 (out), 24 OSC1 (in), 25 VDD_2 (power), 26 PE0/TDO (io), 27 PE1/RDI (io), 28 PB0 (io), 29 PB3 (io), 30 PB4 (HS) (io), 31 PD0/AIN0 (io), 32 PD1/AIN1 (io)

## ST72F324K2TA
designator U?
8-Bit 8k Flash MCU with Nested Interrupts, 384b RAM, 10-Bit ADC, Four Timers, SPI and SCI Interfaces, 32-Pin TQFP, Automotive; Note: Pins 3, 4, 16 and 28-30 are External Interrupt (EI) pins.; Published: 26-May-2004; DatasheetDocument: rev1.9, Aug-2003; PackageDocument: Oct-1997; PackageReference: TQFP32; Publisher: Altium Limited
footprint TQFP32 (QFP; 32 Leads; Body 7 x 7 mm; Pitch 0.8 mm)
pins: 1 VAREF (power), 2 VSSA (power), 3 PF0/AIN8/MCO (io), 4 PF1 (HS)/BEEP (io), 5 PF4/AIN10/OCMP1_A (io), 6 PF6 (HS)/ICAP1_A (io), 7 PF7 (HS)/EXTCLK_A (io), 8 PC0/OCMP2_B/AIN12 (io), 9 PC1/OCMP1_B/AIN13 (io), 10 PC2 (HS)/ICAP2_B (io), 11 PC3 (HS)/ICAP1_B (io), 12 PC4/MISO/ICCDATA (io), 13 PC5/MOSI/AIN14 (io), 14 PC6/SCK/ICCCLK (io), 15 PC7/~{SS}/AIN15 (io), 16 PA3 (HS) (io), 17 PA4 (HS) (io), 18 PA6 (HS) (io), 19 PA7 (HS) (io), 20 VPP/ICCSEL (in), 21 ~{RESET} (io), 22 VSS_2 (power), 23 OSC2 (out), 24 OSC1 (in), 25 VDD_2 (power), 26 PE0/TDO (io), 27 PE1/RDI (io), 28 PB0 (io), 29 PB3 (io), 30 PB4 (HS) (io), 31 PD0/AIN0 (io), 32 PD1/AIN1 (io)

## ST72F324K4B5
designator U?
8-Bit 16k Flash MCU with Nested Interrupts, 512b RAM, 10-Bit ADC, Four Timers, SPI and SCI Interfaces, 32-Pin PDIP, Standard; PackageDocument: rev1.7, Oct-2001; Note: Pins 1, 6, 7, 19, 31 and 32 are External Interrupt (EI) pins.; Published: 26-May-2004; DatasheetDocument: rev1.9, Aug-2003; PackageReference: PSDIP32; Publisher: Altium Limited
footprint PSDIP32 (DIP, Plastic Shrink; 32 Leads; Row Spacing 10.16 mm; Pitch 1.78 mm)
pins: 1 PB4 (HS) (io), 2 PD0/AIN0 (io), 3 PD1/AIN1 (io), 4 VAREF (power), 5 VSSA (power), 6 PF0/AIN8/MCO (io), 7 PF1 (HS)/BEEP (io), 8 PF4/AIN10/OCMP1_A (io), 9 PF6 (HS)/ICAP1_A (io), 10 PF7 (HS)/EXTCLK_A (io), 11 PC0/OCMP2_B/AIN12 (io), 12 PC1/OCMP1_B/AIN13 (io), 13 PC2 (HS)/ICAP2_B (io), 14 PC3 (HS)/ICAP1_B (io), 15 PC4/MISO/ICCDATA (io), 16 PC5/MOSI/AIN14 (io), 17 PC6/SCK/ICCCLK (io), 18 PC7/~{SS}/AIN15 (io), 19 PA3 (HS) (io), 20 PA4 (HS) (io), 21 PA6 (HS) (io), 22 PA7 (HS) (io), 23 VPP/ICCSEL (in), 24 ~{RESET} (io), 25 VSS_2 (power), 26 OSC2 (out), 27 OSC1 (in), 28 VDD_2 (power), 29 PE0/TDO (io), 30 PE1/RDI (io), 31 PB0 (io), 32 PB3 (io)

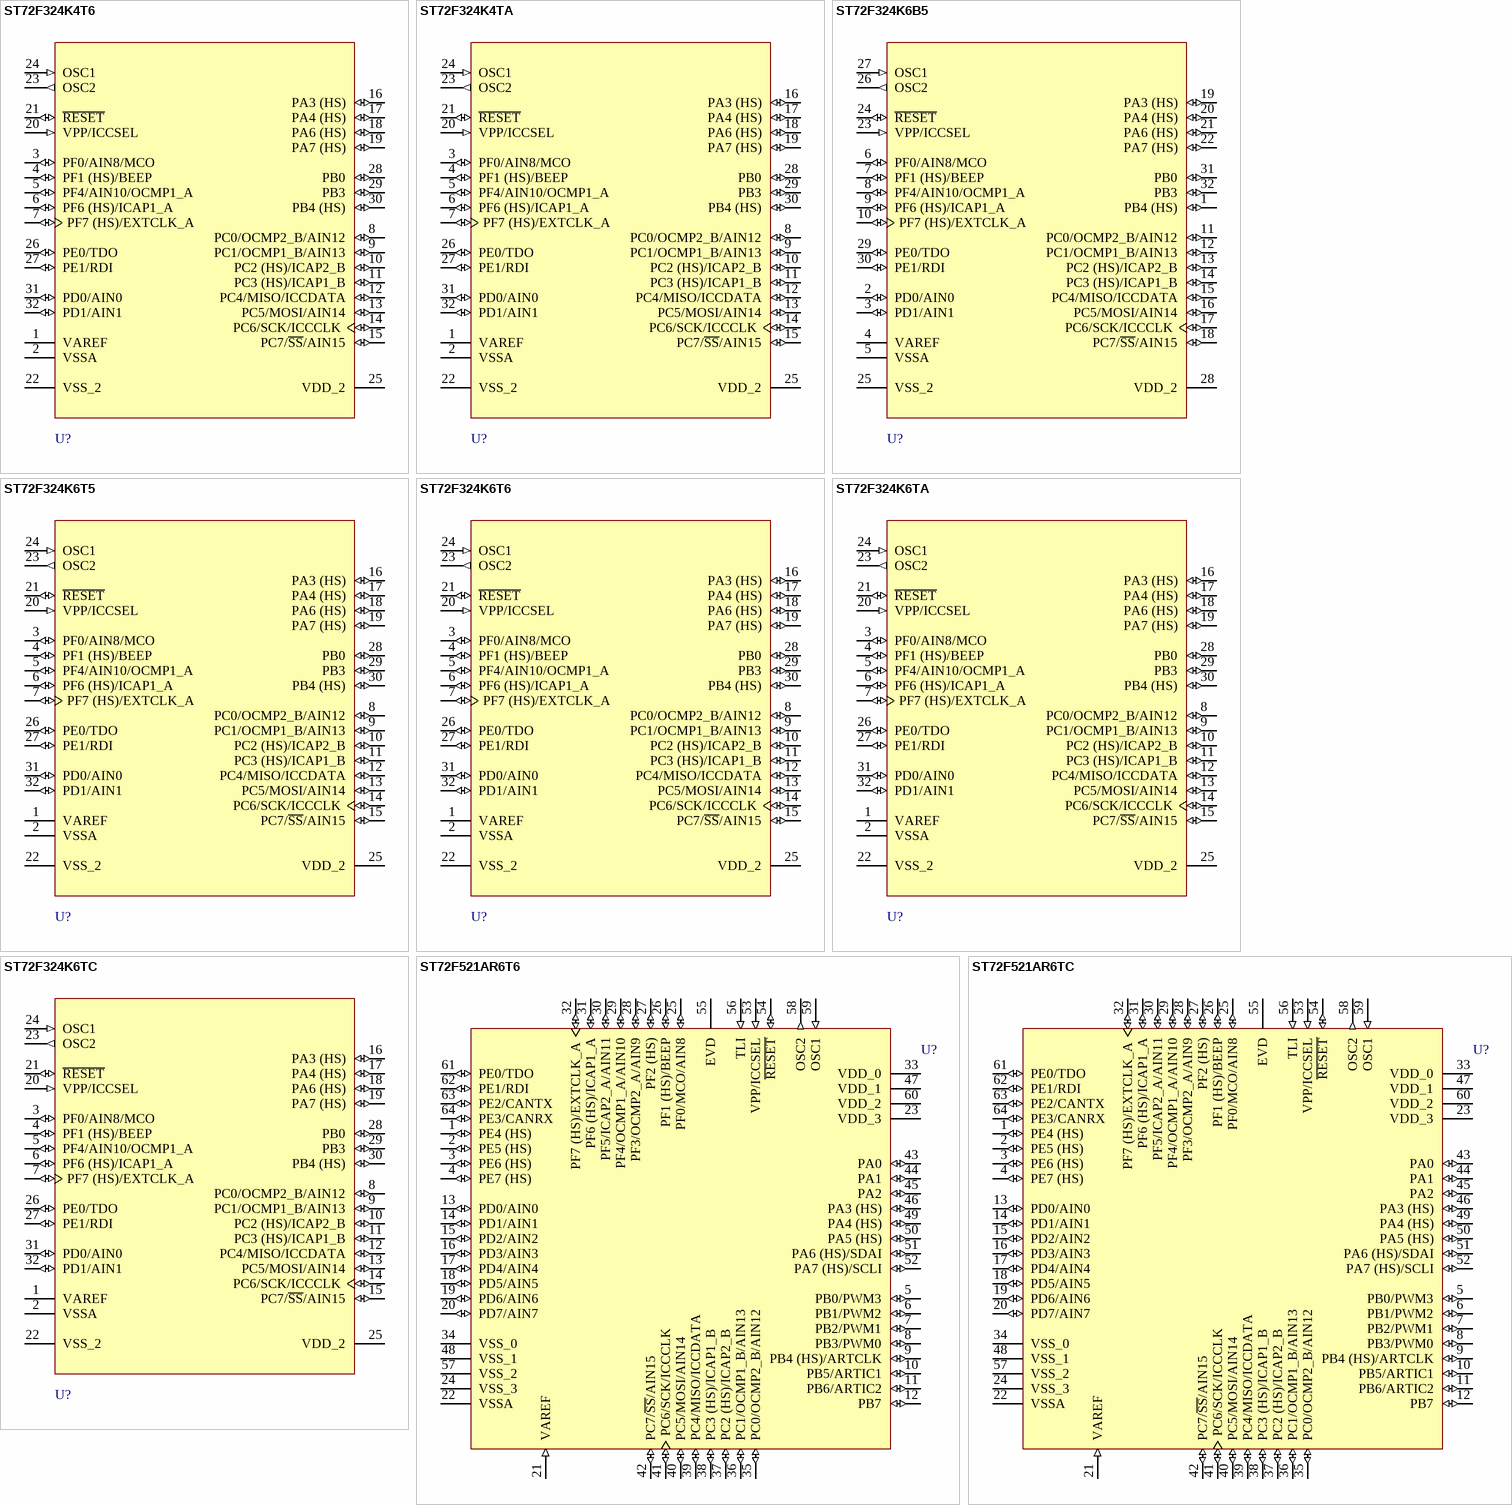
[diagram p41: symbols ST72F324K4T6 to ST72F521AR6TC]

## ST72F324K4T6
designator U?
8-Bit 16k Flash MCU with Nested Interrupts, 512b RAM, 10-Bit ADC, Four Timers, SPI and SCI Interfaces, 32-Pin TQFP, Standard; Note: Pins 3, 4, 16 and 28-30 are External Interrupt (EI) pins.; Published: 26-May-2004; DatasheetDocument: rev1.9, Aug-2003; PackageDocument: Oct-1997; PackageReference: TQFP32; Publisher: Altium Limited
footprint TQFP32 (QFP; 32 Leads; Body 7 x 7 mm; Pitch 0.8 mm)
pins: 1 VAREF (power), 2 VSSA (power), 3 PF0/AIN8/MCO (io), 4 PF1 (HS)/BEEP (io), 5 PF4/AIN10/OCMP1_A (io), 6 PF6 (HS)/ICAP1_A (io), 7 PF7 (HS)/EXTCLK_A (io), 8 PC0/OCMP2_B/AIN12 (io), 9 PC1/OCMP1_B/AIN13 (io), 10 PC2 (HS)/ICAP2_B (io), 11 PC3 (HS)/ICAP1_B (io), 12 PC4/MISO/ICCDATA (io), 13 PC5/MOSI/AIN14 (io), 14 PC6/SCK/ICCCLK (io), 15 PC7/~{SS}/AIN15 (io), 16 PA3 (HS) (io), 17 PA4 (HS) (io), 18 PA6 (HS) (io), 19 PA7 (HS) (io), 20 VPP/ICCSEL (in), 21 ~{RESET} (io), 22 VSS_2 (power), 23 OSC2 (out), 24 OSC1 (in), 25 VDD_2 (power), 26 PE0/TDO (io), 27 PE1/RDI (io), 28 PB0 (io), 29 PB3 (io), 30 PB4 (HS) (io), 31 PD0/AIN0 (io), 32 PD1/AIN1 (io)

## ST72F324K4TA
designator U?
8-Bit 16k Flash MCU with Nested Interrupts, 512b RAM, 10-Bit ADC, Four Timers, SPI and SCI Interfaces, 32-Pin TQFP, Automotive; Note: Pins 3, 4, 16 and 28-30 are External Interrupt (EI) pins.; Published: 26-May-2004; DatasheetDocument: rev1.9, Aug-2003; PackageDocument: Oct-1997; PackageReference: TQFP32; Publisher: Altium Limited
footprint TQFP32 (QFP; 32 Leads; Body 7 x 7 mm; Pitch 0.8 mm)
pins: 1 VAREF (power), 2 VSSA (power), 3 PF0/AIN8/MCO (io), 4 PF1 (HS)/BEEP (io), 5 PF4/AIN10/OCMP1_A (io), 6 PF6 (HS)/ICAP1_A (io), 7 PF7 (HS)/EXTCLK_A (io), 8 PC0/OCMP2_B/AIN12 (io), 9 PC1/OCMP1_B/AIN13 (io), 10 PC2 (HS)/ICAP2_B (io), 11 PC3 (HS)/ICAP1_B (io), 12 PC4/MISO/ICCDATA (io), 13 PC5/MOSI/AIN14 (io), 14 PC6/SCK/ICCCLK (io), 15 PC7/~{SS}/AIN15 (io), 16 PA3 (HS) (io), 17 PA4 (HS) (io), 18 PA6 (HS) (io), 19 PA7 (HS) (io), 20 VPP/ICCSEL (in), 21 ~{RESET} (io), 22 VSS_2 (power), 23 OSC2 (out), 24 OSC1 (in), 25 VDD_2 (power), 26 PE0/TDO (io), 27 PE1/RDI (io), 28 PB0 (io), 29 PB3 (io), 30 PB4 (HS) (io), 31 PD0/AIN0 (io), 32 PD1/AIN1 (io)

## ST72F324K6B5
designator U?
8-Bit 32k Flash MCU with Nested Interrupts, 1024b RAM, 10-Bit ADC, Four Timers, SPI and SCI Interfaces, 32-Pin PDIP, Standard; PackageDocument: rev1.7, Oct-2001; Note: Pins 1, 6, 7, 19, 31 and 32 are External Interrupt (EI) pins.; Published: 26-May-2004; DatasheetDocument: rev1.9, Aug-2003; PackageReference: PSDIP32; Publisher: Altium Limited
footprint PSDIP32 (DIP, Plastic Shrink; 32 Leads; Row Spacing 10.16 mm; Pitch 1.78 mm)
pins: 1 PB4 (HS) (io), 2 PD0/AIN0 (io), 3 PD1/AIN1 (io), 4 VAREF (power), 5 VSSA (power), 6 PF0/AIN8/MCO (io), 7 PF1 (HS)/BEEP (io), 8 PF4/AIN10/OCMP1_A (io), 9 PF6 (HS)/ICAP1_A (io), 10 PF7 (HS)/EXTCLK_A (io), 11 PC0/OCMP2_B/AIN12 (io), 12 PC1/OCMP1_B/AIN13 (io), 13 PC2 (HS)/ICAP2_B (io), 14 PC3 (HS)/ICAP1_B (io), 15 PC4/MISO/ICCDATA (io), 16 PC5/MOSI/AIN14 (io), 17 PC6/SCK/ICCCLK (io), 18 PC7/~{SS}/AIN15 (io), 19 PA3 (HS) (io), 20 PA4 (HS) (io), 21 PA6 (HS) (io), 22 PA7 (HS) (io), 23 VPP/ICCSEL (in), 24 ~{RESET} (io), 25 VSS_2 (power), 26 OSC2 (out), 27 OSC1 (in), 28 VDD_2 (power), 29 PE0/TDO (io), 30 PE1/RDI (io), 31 PB0 (io), 32 PB3 (io)

## ST72F324K6T5
designator U?
8-Bit 32k Flash MCU with Nested Interrupts, 1024b RAM, 10-Bit ADC, Four Timers, SPI and SCI Interfaces, 32-Pin TQFP, Standard; Note: Pins 3, 4, 16 and 28-30 are External Interrupt (EI) pins.; Published: 26-May-2004; DatasheetDocument: rev1.9, Aug-2003; PackageDocument: Oct-1997; PackageReference: TQFP32; Publisher: Altium Limited
footprint TQFP32 (QFP; 32 Leads; Body 7 x 7 mm; Pitch 0.8 mm)
pins: 1 VAREF (power), 2 VSSA (power), 3 PF0/AIN8/MCO (io), 4 PF1 (HS)/BEEP (io), 5 PF4/AIN10/OCMP1_A (io), 6 PF6 (HS)/ICAP1_A (io), 7 PF7 (HS)/EXTCLK_A (io), 8 PC0/OCMP2_B/AIN12 (io), 9 PC1/OCMP1_B/AIN13 (io), 10 PC2 (HS)/ICAP2_B (io), 11 PC3 (HS)/ICAP1_B (io), 12 PC4/MISO/ICCDATA (io), 13 PC5/MOSI/AIN14 (io), 14 PC6/SCK/ICCCLK (io), 15 PC7/~{SS}/AIN15 (io), 16 PA3 (HS) (io), 17 PA4 (HS) (io), 18 PA6 (HS) (io), 19 PA7 (HS) (io), 20 VPP/ICCSEL (in), 21 ~{RESET} (io), 22 VSS_2 (power), 23 OSC2 (out), 24 OSC1 (in), 25 VDD_2 (power), 26 PE0/TDO (io), 27 PE1/RDI (io), 28 PB0 (io), 29 PB3 (io), 30 PB4 (HS) (io), 31 PD0/AIN0 (io), 32 PD1/AIN1 (io)

## ST72F324K6T6
designator U?
8-Bit 32k Flash MCU with Nested Interrupts, 1024b RAM, 10-Bit ADC, Four Timers, SPI and SCI Interfaces, 32-Pin TQFP, Standard; Note: Pins 3, 4, 16 and 28-30 are External Interrupt (EI) pins.; Published: 26-May-2004; DatasheetDocument: rev1.9, Aug-2003; PackageDocument: Oct-1997; PackageReference: TQFP32; Publisher: Altium Limited
footprint TQFP32 (QFP; 32 Leads; Body 7 x 7 mm; Pitch 0.8 mm)
pins: 1 VAREF (power), 2 VSSA (power), 3 PF0/AIN8/MCO (io), 4 PF1 (HS)/BEEP (io), 5 PF4/AIN10/OCMP1_A (io), 6 PF6 (HS)/ICAP1_A (io), 7 PF7 (HS)/EXTCLK_A (io), 8 PC0/OCMP2_B/AIN12 (io), 9 PC1/OCMP1_B/AIN13 (io), 10 PC2 (HS)/ICAP2_B (io), 11 PC3 (HS)/ICAP1_B (io), 12 PC4/MISO/ICCDATA (io), 13 PC5/MOSI/AIN14 (io), 14 PC6/SCK/ICCCLK (io), 15 PC7/~{SS}/AIN15 (io), 16 PA3 (HS) (io), 17 PA4 (HS) (io), 18 PA6 (HS) (io), 19 PA7 (HS) (io), 20 VPP/ICCSEL (in), 21 ~{RESET} (io), 22 VSS_2 (power), 23 OSC2 (out), 24 OSC1 (in), 25 VDD_2 (power), 26 PE0/TDO (io), 27 PE1/RDI (io), 28 PB0 (io), 29 PB3 (io), 30 PB4 (HS) (io), 31 PD0/AIN0 (io), 32 PD1/AIN1 (io)

## ST72F324K6TA
designator U?
8-Bit 32k Flash MCU with Nested Interrupts, 1024b RAM, 10-Bit ADC, Four Timers, SPI and SCI Interfaces, 32-Pin TQFP, Automotive; Note: Pins 3, 4, 16 and 28-30 are External Interrupt (EI) pins.; Published: 26-May-2004; DatasheetDocument: rev1.9, Aug-2003; PackageDocument: Oct-1997; PackageReference: TQFP32; Publisher: Altium Limited
footprint TQFP32 (QFP; 32 Leads; Body 7 x 7 mm; Pitch 0.8 mm)
pins: 1 VAREF (power), 2 VSSA (power), 3 PF0/AIN8/MCO (io), 4 PF1 (HS)/BEEP (io), 5 PF4/AIN10/OCMP1_A (io), 6 PF6 (HS)/ICAP1_A (io), 7 PF7 (HS)/EXTCLK_A (io), 8 PC0/OCMP2_B/AIN12 (io), 9 PC1/OCMP1_B/AIN13 (io), 10 PC2 (HS)/ICAP2_B (io), 11 PC3 (HS)/ICAP1_B (io), 12 PC4/MISO/ICCDATA (io), 13 PC5/MOSI/AIN14 (io), 14 PC6/SCK/ICCCLK (io), 15 PC7/~{SS}/AIN15 (io), 16 PA3 (HS) (io), 17 PA4 (HS) (io), 18 PA6 (HS) (io), 19 PA7 (HS) (io), 20 VPP/ICCSEL (in), 21 ~{RESET} (io), 22 VSS_2 (power), 23 OSC2 (out), 24 OSC1 (in), 25 VDD_2 (power), 26 PE0/TDO (io), 27 PE1/RDI (io), 28 PB0 (io), 29 PB3 (io), 30 PB4 (HS) (io), 31 PD0/AIN0 (io), 32 PD1/AIN1 (io)

## ST72F324K6TC
designator U?
8-Bit 32k Flash MCU with Nested Interrupts, 1024b RAM, 10-Bit ADC, Four Timers, SPI and SCI Interfaces, 32-Pin TQFP, Automotive; Note: Pins 3, 4, 16 and 28-30 are External Interrupt (EI) pins.; Published: 26-May-2004; DatasheetDocument: rev1.9, Aug-2003; PackageDocument: Oct-1997; PackageReference: TQFP32; Publisher: Altium Limited
footprint TQFP32 (QFP; 32 Leads; Body 7 x 7 mm; Pitch 0.8 mm)
pins: 1 VAREF (power), 2 VSSA (power), 3 PF0/AIN8/MCO (io), 4 PF1 (HS)/BEEP (io), 5 PF4/AIN10/OCMP1_A (io), 6 PF6 (HS)/ICAP1_A (io), 7 PF7 (HS)/EXTCLK_A (io), 8 PC0/OCMP2_B/AIN12 (io), 9 PC1/OCMP1_B/AIN13 (io), 10 PC2 (HS)/ICAP2_B (io), 11 PC3 (HS)/ICAP1_B (io), 12 PC4/MISO/ICCDATA (io), 13 PC5/MOSI/AIN14 (io), 14 PC6/SCK/ICCCLK (io), 15 PC7/~{SS}/AIN15 (io), 16 PA3 (HS) (io), 17 PA4 (HS) (io), 18 PA6 (HS) (io), 19 PA7 (HS) (io), 20 VPP/ICCSEL (in), 21 ~{RESET} (io), 22 VSS_2 (power), 23 OSC2 (out), 24 OSC1 (in), 25 VDD_2 (power), 26 PE0/TDO (io), 27 PE1/RDI (io), 28 PB0 (io), 29 PB3 (io), 30 PB4 (HS) (io), 31 PD0/AIN0 (io), 32 PD1/AIN1 (io)

## ST72F521AR6T6
designator U?
8-Bit 32k FLASH MCU with Nested Interrupts, 1024b RAM, 10-Bit ADC, Five Timers, SPI, SCI, I²C and CAN Interfaces, 64-Pin TQFP, Standard; Note: Pins 5-12, 25-27 and 43-46 are External Interrupt (EI) pins.; Published: 26-May-2004; DatasheetDocument: rev1.9, Aug-2003; PackageDocument: Jun-2003; PackageReference: TQFP64; Publisher: Altium Limited; Code_JEDEC: MS-026; Code_IPC: SQFP10X10-64
footprint TQFP64 (QFP, Thin; 64 Leads; Body 10 x 10 mm; Pitch 0.5 mm)
pins: 1 PE4 (HS) (io), 2 PE5 (HS) (io), 3 PE6 (HS) (io), 4 PE7 (HS) (io), 5 PB0/PWM3 (io), 6 PB1/PWM2 (io), 7 PB2/PWM1 (io), 8 PB3/PWM0 (io), 9 PB4 (HS)/ARTCLK (io), 10 PB5/ARTIC1 (io), 11 PB6/ARTIC2 (io), 12 PB7 (io), 13 PD0/AIN0 (io), 14 PD1/AIN1 (io), 15 PD2/AIN2 (io), 16 PD3/AIN3 (io), 17 PD4/AIN4 (io), 18 PD5/AIN5 (io), 19 PD6/AIN6 (io), 20 PD7/AIN7 (io), 21 VAREF (in), 22 VSSA (power), 23 VDD_3 (power), 24 VSS_3 (power), 25 PF0/MCO/AIN8 (io), 26 PF1 (HS)/BEEP (io), 27 PF2 (HS) (io), 28 PF3/OCMP2_A/AIN9 (io), 29 PF4/OCMP1_A/AIN10 (io), 30 PF5/ICAP2_A/AIN11 (io), 31 PF6 (HS)/ICAP1_A (io), 32 PF7 (HS)/EXTCLK_A (io), 33 VDD_0 (power), 34 VSS_0 (power), 35 PC0/OCMP2_B/AIN12 (io), 36 PC1/OCMP1_B/AIN13 (io), 37 PC2 (HS)/ICAP2_B (io), 38 PC3 (HS)/ICAP1_B (io), 39 PC4/MISO/ICCDATA (io), 40 PC5/MOSI/AIN14 (io), 41 PC6/SCK/ICCCLK (io), 42 PC7/~{SS}/AIN15 (io), 43 PA0 (io), 44 PA1 (io), 45 PA2 (io), 46 PA3 (HS) (io), 47 VDD_1 (power), 48 VSS_1 (power), 49 PA4 (HS) (io), 50 PA5 (HS) (io), 51 PA6 (HS)/SDAI (io), 52 PA7 (HS)/SCLI (io), 53 VPP/ICCSEL (in), 54 ~{RESET} (io), 55 EVD, 56 TLI (in), 57 VSS_2 (power), 58 OSC2 (out), 59 OSC1 (in), 60 VDD_2 (power), 61 PE0/TDO (io), 62 PE1/RDI (io), 63 PE2/CANTX (io), 64 PE3/CANRX (io)

## ST72F521AR6TC
designator U?
8-Bit 32k FLASH MCU with Nested Interrupts, 1024b RAM, 10-Bit ADC, Five Timers, SPI, SCI, I²C and CAN Interfaces, 64-Pin TQFP, Automotive; Note: Pins 5-12, 25-27 and 43-46 are External Interrupt (EI) pins.; Published: 26-May-2004; DatasheetDocument: rev1.9, Aug-2003; PackageDocument: Jun-2003; PackageReference: TQFP64; Publisher: Altium Limited; Code_JEDEC: MS-026; Code_IPC: SQFP10X10-64
footprint TQFP64 (QFP, Thin; 64 Leads; Body 10 x 10 mm; Pitch 0.5 mm)
pins: 1 PE4 (HS) (io), 2 PE5 (HS) (io), 3 PE6 (HS) (io), 4 PE7 (HS) (io), 5 PB0/PWM3 (io), 6 PB1/PWM2 (io), 7 PB2/PWM1 (io), 8 PB3/PWM0 (io), 9 PB4 (HS)/ARTCLK (io), 10 PB5/ARTIC1 (io), 11 PB6/ARTIC2 (io), 12 PB7 (io), 13 PD0/AIN0 (io), 14 PD1/AIN1 (io), 15 PD2/AIN2 (io), 16 PD3/AIN3 (io), 17 PD4/AIN4 (io), 18 PD5/AIN5 (io), 19 PD6/AIN6 (io), 20 PD7/AIN7 (io), 21 VAREF (in), 22 VSSA (power), 23 VDD_3 (power), 24 VSS_3 (power), 25 PF0/MCO/AIN8 (io), 26 PF1 (HS)/BEEP (io), 27 PF2 (HS) (io), 28 PF3/OCMP2_A/AIN9 (io), 29 PF4/OCMP1_A/AIN10 (io), 30 PF5/ICAP2_A/AIN11 (io), 31 PF6 (HS)/ICAP1_A (io), 32 PF7 (HS)/EXTCLK_A (io), 33 VDD_0 (power), 34 VSS_0 (power), 35 PC0/OCMP2_B/AIN12 (io), 36 PC1/OCMP1_B/AIN13 (io), 37 PC2 (HS)/ICAP2_B (io), 38 PC3 (HS)/ICAP1_B (io), 39 PC4/MISO/ICCDATA (io), 40 PC5/MOSI/AIN14 (io), 41 PC6/SCK/ICCCLK (io), 42 PC7/~{SS}/AIN15 (io), 43 PA0 (io), 44 PA1 (io), 45 PA2 (io), 46 PA3 (HS) (io), 47 VDD_1 (power), 48 VSS_1 (power), 49 PA4 (HS) (io), 50 PA5 (HS) (io), 51 PA6 (HS)/SDAI (io), 52 PA7 (HS)/SCLI (io), 53 VPP/ICCSEL (in), 54 ~{RESET} (io), 55 EVD, 56 TLI (in), 57 VSS_2 (power), 58 OSC2 (out), 59 OSC1 (in), 60 VDD_2 (power), 61 PE0/TDO (io), 62 PE1/RDI (io), 63 PE2/CANTX (io), 64 PE3/CANRX (io)

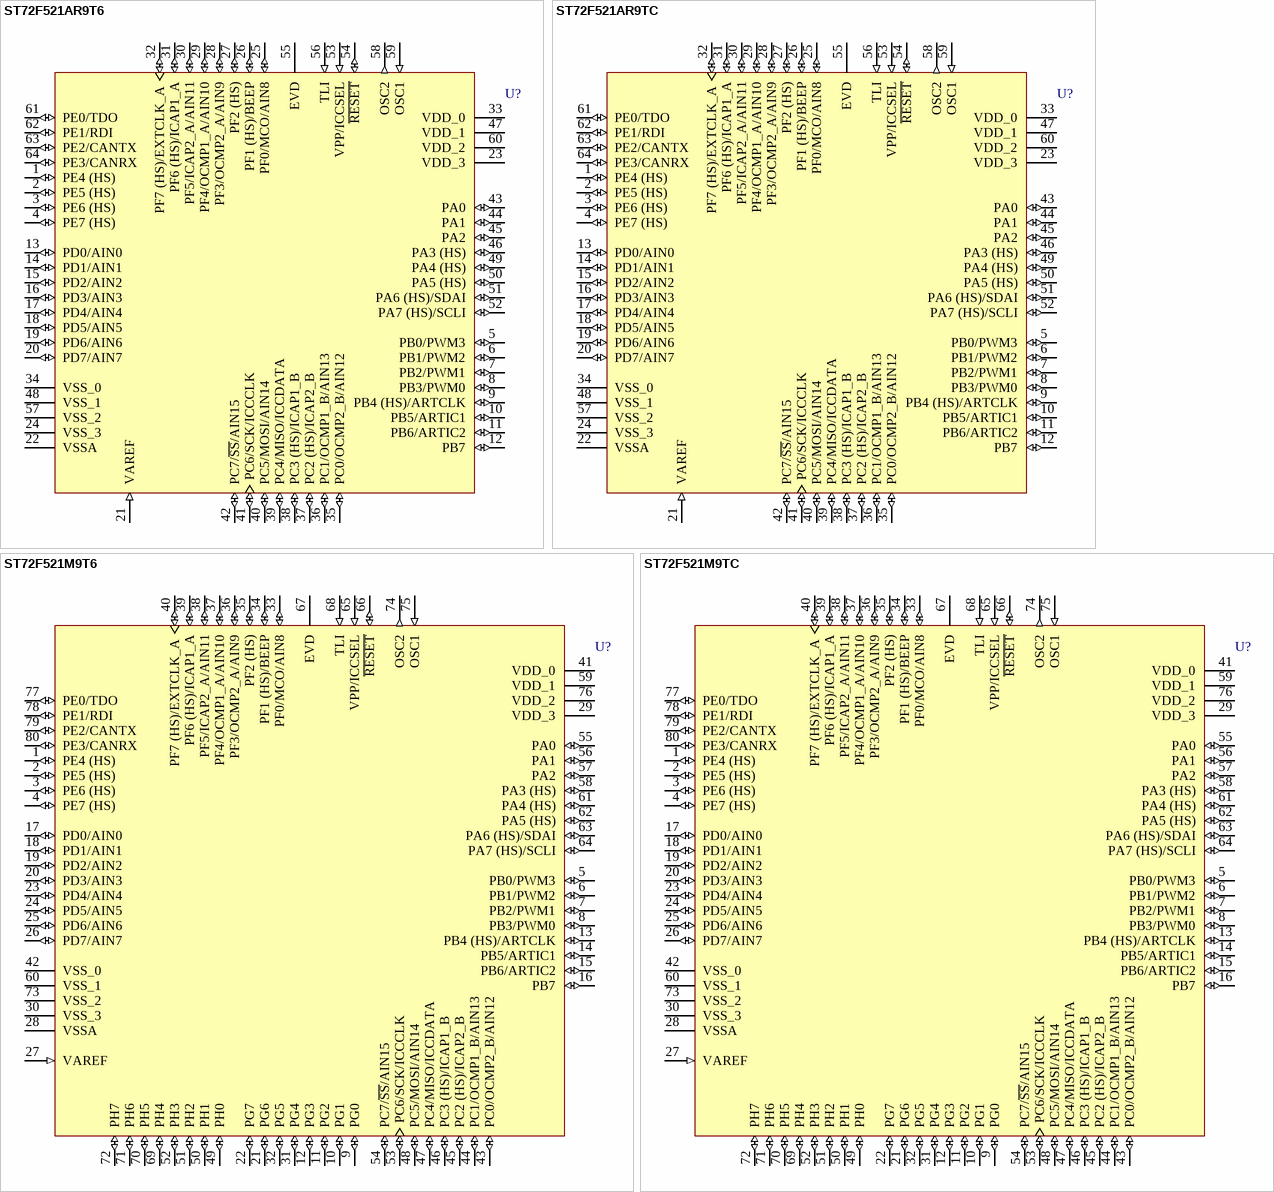
[diagram p42: symbols ST72F521AR9T6 to ST72F521M9TC]

## ST72F521AR9T6
designator U?
8-Bit 60k FLASH MCU with Nested Interrupts, 2048b RAM, 10-Bit ADC, Five Timers, SPI, SCI, I²C and CAN Interfaces, 64-Pin TQFP, Standard; Note: Pins 5-12, 25-27 and 43-46 are External Interrupt (EI) pins.; Published: 26-May-2004; DatasheetDocument: rev1.9, Aug-2003; PackageDocument: Jun-2003; PackageReference: TQFP64; Publisher: Altium Limited; Code_JEDEC: MS-026; Code_IPC: SQFP10X10-64
footprint TQFP64 (QFP, Thin; 64 Leads; Body 10 x 10 mm; Pitch 0.5 mm)
pins: 1 PE4 (HS) (io), 2 PE5 (HS) (io), 3 PE6 (HS) (io), 4 PE7 (HS) (io), 5 PB0/PWM3 (io), 6 PB1/PWM2 (io), 7 PB2/PWM1 (io), 8 PB3/PWM0 (io), 9 PB4 (HS)/ARTCLK (io), 10 PB5/ARTIC1 (io), 11 PB6/ARTIC2 (io), 12 PB7 (io), 13 PD0/AIN0 (io), 14 PD1/AIN1 (io), 15 PD2/AIN2 (io), 16 PD3/AIN3 (io), 17 PD4/AIN4 (io), 18 PD5/AIN5 (io), 19 PD6/AIN6 (io), 20 PD7/AIN7 (io), 21 VAREF (in), 22 VSSA (power), 23 VDD_3 (power), 24 VSS_3 (power), 25 PF0/MCO/AIN8 (io), 26 PF1 (HS)/BEEP (io), 27 PF2 (HS) (io), 28 PF3/OCMP2_A/AIN9 (io), 29 PF4/OCMP1_A/AIN10 (io), 30 PF5/ICAP2_A/AIN11 (io), 31 PF6 (HS)/ICAP1_A (io), 32 PF7 (HS)/EXTCLK_A (io), 33 VDD_0 (power), 34 VSS_0 (power), 35 PC0/OCMP2_B/AIN12 (io), 36 PC1/OCMP1_B/AIN13 (io), 37 PC2 (HS)/ICAP2_B (io), 38 PC3 (HS)/ICAP1_B (io), 39 PC4/MISO/ICCDATA (io), 40 PC5/MOSI/AIN14 (io), 41 PC6/SCK/ICCCLK (io), 42 PC7/~{SS}/AIN15 (io), 43 PA0 (io), 44 PA1 (io), 45 PA2 (io), 46 PA3 (HS) (io), 47 VDD_1 (power), 48 VSS_1 (power), 49 PA4 (HS) (io), 50 PA5 (HS) (io), 51 PA6 (HS)/SDAI (io), 52 PA7 (HS)/SCLI (io), 53 VPP/ICCSEL (in), 54 ~{RESET} (io), 55 EVD, 56 TLI (in), 57 VSS_2 (power), 58 OSC2 (out), 59 OSC1 (in), 60 VDD_2 (power), 61 PE0/TDO (io), 62 PE1/RDI (io), 63 PE2/CANTX (io), 64 PE3/CANRX (io)

## ST72F521AR9TC
designator U?
8-Bit 60k FLASH MCU with Nested Interrupts, 2048b RAM, 10-Bit ADC, Five Timers, SPI, SCI, I²C and CAN Interfaces, 64-Pin TQFP, Automotive; Note: Pins 5-12, 25-27 and 43-46 are External Interrupt (EI) pins.; Published: 26-May-2004; DatasheetDocument: rev1.9, Aug-2003; PackageDocument: Jun-2003; PackageReference: TQFP64; Publisher: Altium Limited; Code_JEDEC: MS-026; Code_IPC: SQFP10X10-64
footprint TQFP64 (QFP, Thin; 64 Leads; Body 10 x 10 mm; Pitch 0.5 mm)
pins: 1 PE4 (HS) (io), 2 PE5 (HS) (io), 3 PE6 (HS) (io), 4 PE7 (HS) (io), 5 PB0/PWM3 (io), 6 PB1/PWM2 (io), 7 PB2/PWM1 (io), 8 PB3/PWM0 (io), 9 PB4 (HS)/ARTCLK (io), 10 PB5/ARTIC1 (io), 11 PB6/ARTIC2 (io), 12 PB7 (io), 13 PD0/AIN0 (io), 14 PD1/AIN1 (io), 15 PD2/AIN2 (io), 16 PD3/AIN3 (io), 17 PD4/AIN4 (io), 18 PD5/AIN5 (io), 19 PD6/AIN6 (io), 20 PD7/AIN7 (io), 21 VAREF (in), 22 VSSA (power), 23 VDD_3 (power), 24 VSS_3 (power), 25 PF0/MCO/AIN8 (io), 26 PF1 (HS)/BEEP (io), 27 PF2 (HS) (io), 28 PF3/OCMP2_A/AIN9 (io), 29 PF4/OCMP1_A/AIN10 (io), 30 PF5/ICAP2_A/AIN11 (io), 31 PF6 (HS)/ICAP1_A (io), 32 PF7 (HS)/EXTCLK_A (io), 33 VDD_0 (power), 34 VSS_0 (power), 35 PC0/OCMP2_B/AIN12 (io), 36 PC1/OCMP1_B/AIN13 (io), 37 PC2 (HS)/ICAP2_B (io), 38 PC3 (HS)/ICAP1_B (io), 39 PC4/MISO/ICCDATA (io), 40 PC5/MOSI/AIN14 (io), 41 PC6/SCK/ICCCLK (io), 42 PC7/~{SS}/AIN15 (io), 43 PA0 (io), 44 PA1 (io), 45 PA2 (io), 46 PA3 (HS) (io), 47 VDD_1 (power), 48 VSS_1 (power), 49 PA4 (HS) (io), 50 PA5 (HS) (io), 51 PA6 (HS)/SDAI (io), 52 PA7 (HS)/SCLI (io), 53 VPP/ICCSEL (in), 54 ~{RESET} (io), 55 EVD, 56 TLI (in), 57 VSS_2 (power), 58 OSC2 (out), 59 OSC1 (in), 60 VDD_2 (power), 61 PE0/TDO (io), 62 PE1/RDI (io), 63 PE2/CANTX (io), 64 PE3/CANRX (io)

## ST72F521M9T6
designator U?
8-Bit 60k FLASH MCU with Nested Interrupts, 2048b RAM, 10-Bit ADC, Five Timers, SPI, SCI, I²C and CAN Interfaces, 80-Pin TQFP, Standard; Note: Pins 5-8, 13-16, 33-35 and 55-58 are External Interrupt (EI) pins.; Published: 26-May-2004; DatasheetDocument: rev1.9, Aug-2003; PackageDocument: Jan-2001; PackageReference: TQFP80; Publisher: Altium Limited
footprint TQFP80 (QFP, Plastic, Thin; 80 Leads; Body 16 x 16 mm; Pitch 0.65 mm)
pins: 1 PE4 (HS) (io), 2 PE5 (HS) (io), 3 PE6 (HS) (io), 4 PE7 (HS) (io), 5 PB0/PWM3 (io), 6 PB1/PWM2 (io), 7 PB2/PWM1 (io), 8 PB3/PWM0 (io), 9 PG0 (io), 10 PG1 (io), 11 PG2 (io), 12 PG3 (io), 13 PB4 (HS)/ARTCLK (io), 14 PB5/ARTIC1 (io), 15 PB6/ARTIC2 (io), 16 PB7 (io), 17 PD0/AIN0 (io), 18 PD1/AIN1 (io), 19 PD2/AIN2 (io), 20 PD3/AIN3 (io), 21 PG6 (io), 22 PG7 (io), 23 PD4/AIN4 (io), 24 PD5/AIN5 (io), 25 PD6/AIN6 (io), 26 PD7/AIN7 (io), 27 VAREF (in), 28 VSSA (power), 29 VDD_3 (power), 30 VSS_3 (power), 31 PG4 (io), 32 PG5 (io), 33 PF0/MCO/AIN8 (io), 34 PF1 (HS)/BEEP (io), 35 PF2 (HS) (io), 36 PF3/OCMP2_A/AIN9 (io), 37 PF4/OCMP1_A/AIN10 (io), 38 PF5/ICAP2_A/AIN11 (io), 39 PF6 (HS)/ICAP1_A (io), 40 PF7 (HS)/EXTCLK_A (io), 41 VDD_0 (power), 42 VSS_0 (power), 43 PC0/OCMP2_B/AIN12 (io), 44 PC1/OCMP1_B/AIN13 (io), 45 PC2 (HS)/ICAP2_B (io), 46 PC3 (HS)/ICAP1_B (io), 47 PC4/MISO/ICCDATA (io), 48 PC5/MOSI/AIN14 (io), 49 PH0 (io), 50 PH1 (io), 51 PH2 (io), 52 PH3 (io), 53 PC6/SCK/ICCCLK (io), 54 PC7/~{SS}/AIN15 (io), 55 PA0 (io), 56 PA1 (io), 57 PA2 (io), 58 PA3 (HS) (io), 59 VDD_1 (power), 60 VSS_1 (power), 61 PA4 (HS) (io), 62 PA5 (HS) (io), 63 PA6 (HS)/SDAI (io), 64 PA7 (HS)/SCLI (io), 65 VPP/ICCSEL (in), 66 ~{RESET} (io), 67 EVD, 68 TLI (in), 69 PH4 (io), 70 PH5 (io), 71 PH6 (io), 72 PH7 (io), 73 VSS_2 (power), 74 OSC2 (out), 75 OSC1 (in), 76 VDD_2 (power), 77 PE0/TDO (io), 78 PE1/RDI (io), 79 PE2/CANTX (io), 80 PE3/CANRX (io)

## ST72F521M9TC
designator U?
8-Bit 60k FLASH MCU with Nested Interrupts, 2048b RAM, 10-Bit ADC, Five Timers, SPI, SCI, I²C and CAN Interfaces, 80-Pin TQFP, Automotive; Note: Pins 5-8, 13-16, 33-35 and 55-58 are External Interrupt (EI) pins.; Published: 26-May-2004; DatasheetDocument: rev1.9, Aug-2003; PackageDocument: Jan-2001; PackageReference: TQFP80; Publisher: Altium Limited
footprint TQFP80 (QFP, Plastic, Thin; 80 Leads; Body 16 x 16 mm; Pitch 0.65 mm)
pins: 1 PE4 (HS) (io), 2 PE5 (HS) (io), 3 PE6 (HS) (io), 4 PE7 (HS) (io), 5 PB0/PWM3 (io), 6 PB1/PWM2 (io), 7 PB2/PWM1 (io), 8 PB3/PWM0 (io), 9 PG0 (io), 10 PG1 (io), 11 PG2 (io), 12 PG3 (io), 13 PB4 (HS)/ARTCLK (io), 14 PB5/ARTIC1 (io), 15 PB6/ARTIC2 (io), 16 PB7 (io), 17 PD0/AIN0 (io), 18 PD1/AIN1 (io), 19 PD2/AIN2 (io), 20 PD3/AIN3 (io), 21 PG6 (io), 22 PG7 (io), 23 PD4/AIN4 (io), 24 PD5/AIN5 (io), 25 PD6/AIN6 (io), 26 PD7/AIN7 (io), 27 VAREF (in), 28 VSSA (power), 29 VDD_3 (power), 30 VSS_3 (power), 31 PG4 (io), 32 PG5 (io), 33 PF0/MCO/AIN8 (io), 34 PF1 (HS)/BEEP (io), 35 PF2 (HS) (io), 36 PF3/OCMP2_A/AIN9 (io), 37 PF4/OCMP1_A/AIN10 (io), 38 PF5/ICAP2_A/AIN11 (io), 39 PF6 (HS)/ICAP1_A (io), 40 PF7 (HS)/EXTCLK_A (io), 41 VDD_0 (power), 42 VSS_0 (power), 43 PC0/OCMP2_B/AIN12 (io), 44 PC1/OCMP1_B/AIN13 (io), 45 PC2 (HS)/ICAP2_B (io), 46 PC3 (HS)/ICAP1_B (io), 47 PC4/MISO/ICCDATA (io), 48 PC5/MOSI/AIN14 (io), 49 PH0 (io), 50 PH1 (io), 51 PH2 (io), 52 PH3 (io), 53 PC6/SCK/ICCCLK (io), 54 PC7/~{SS}/AIN15 (io), 55 PA0 (io), 56 PA1 (io), 57 PA2 (io), 58 PA3 (HS) (io), 59 VDD_1 (power), 60 VSS_1 (power), 61 PA4 (HS) (io), 62 PA5 (HS) (io), 63 PA6 (HS)/SDAI (io), 64 PA7 (HS)/SCLI (io), 65 VPP/ICCSEL (in), 66 ~{RESET} (io), 67 EVD, 68 TLI (in), 69 PH4 (io), 70 PH5 (io), 71 PH6 (io), 72 PH7 (io), 73 VSS_2 (power), 74 OSC2 (out), 75 OSC1 (in), 76 VDD_2 (power), 77 PE0/TDO (io), 78 PE1/RDI (io), 79 PE2/CANTX (io), 80 PE3/CANRX (io)

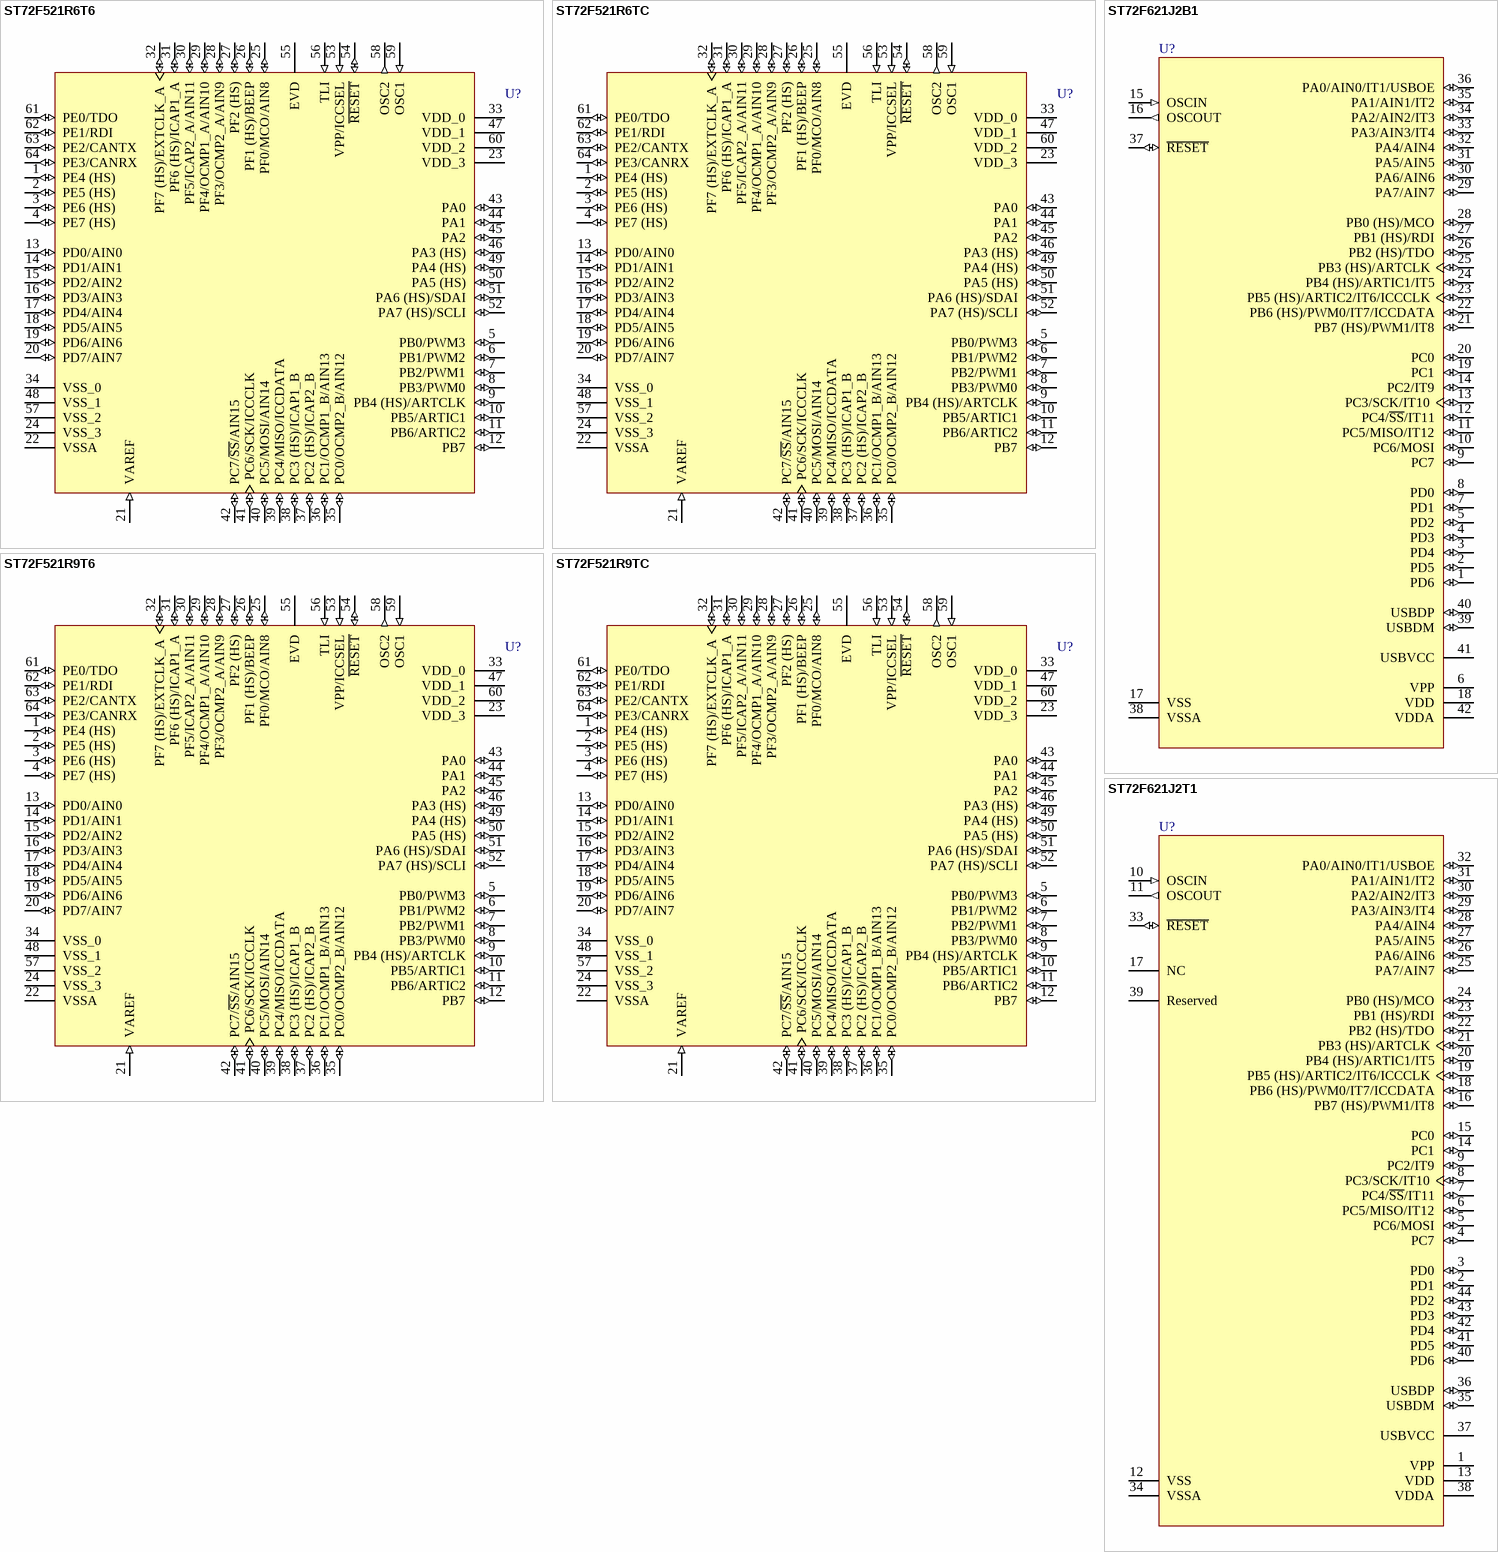
[diagram p43: symbols ST72F521R6T6 to ST72F621J2T1]

## ST72F521R6T6
designator U?
8-Bit 32k FLASH MCU with Nested Interrupts, 1024b RAM, 10-Bit ADC, Five Timers, SPI, SCI, I²C and CAN Interfaces, 64-Pin TQFP, Standard; PackageDocument: rev2.4, Jan-2002; Note: Pins 5-12, 25-27 and 43-46 are External Interrupt (EI) pins.; Published: 26-May-2004; DatasheetDocument: rev1.9, Aug-2003; PackageReference: TQFP64-0.8; Publisher: Altium Limited
footprint TQFP64-0.8 (QFP, Thin; 64 Leads; Body 14 x 14 mm; Pitch 0.8 mm)
pins: 1 PE4 (HS) (io), 2 PE5 (HS) (io), 3 PE6 (HS) (io), 4 PE7 (HS) (io), 5 PB0/PWM3 (io), 6 PB1/PWM2 (io), 7 PB2/PWM1 (io), 8 PB3/PWM0 (io), 9 PB4 (HS)/ARTCLK (io), 10 PB5/ARTIC1 (io), 11 PB6/ARTIC2 (io), 12 PB7 (io), 13 PD0/AIN0 (io), 14 PD1/AIN1 (io), 15 PD2/AIN2 (io), 16 PD3/AIN3 (io), 17 PD4/AIN4 (io), 18 PD5/AIN5 (io), 19 PD6/AIN6 (io), 20 PD7/AIN7 (io), 21 VAREF (in), 22 VSSA (power), 23 VDD_3 (power), 24 VSS_3 (power), 25 PF0/MCO/AIN8 (io), 26 PF1 (HS)/BEEP (io), 27 PF2 (HS) (io), 28 PF3/OCMP2_A/AIN9 (io), 29 PF4/OCMP1_A/AIN10 (io), 30 PF5/ICAP2_A/AIN11 (io), 31 PF6 (HS)/ICAP1_A (io), 32 PF7 (HS)/EXTCLK_A (io), 33 VDD_0 (power), 34 VSS_0 (power), 35 PC0/OCMP2_B/AIN12 (io), 36 PC1/OCMP1_B/AIN13 (io), 37 PC2 (HS)/ICAP2_B (io), 38 PC3 (HS)/ICAP1_B (io), 39 PC4/MISO/ICCDATA (io), 40 PC5/MOSI/AIN14 (io), 41 PC6/SCK/ICCCLK (io), 42 PC7/~{SS}/AIN15 (io), 43 PA0 (io), 44 PA1 (io), 45 PA2 (io), 46 PA3 (HS) (io), 47 VDD_1 (power), 48 VSS_1 (power), 49 PA4 (HS) (io), 50 PA5 (HS) (io), 51 PA6 (HS)/SDAI (io), 52 PA7 (HS)/SCLI (io), 53 VPP/ICCSEL (in), 54 ~{RESET} (io), 55 EVD, 56 TLI (in), 57 VSS_2 (power), 58 OSC2 (out), 59 OSC1 (in), 60 VDD_2 (power), 61 PE0/TDO (io), 62 PE1/RDI (io), 63 PE2/CANTX (io), 64 PE3/CANRX (io)

## ST72F521R6TC
designator U?
8-Bit 32k FLASH MCU with Nested Interrupts, 1024b RAM, 10-Bit ADC, Five Timers, SPI, SCI, I²C and CAN Interfaces, 64-Pin TQFP, Automotive; PackageDocument: rev2.4, Jan-2002; Note: Pins 5-12, 25-27 and 43-46 are External Interrupt (EI) pins.; Published: 26-May-2004; DatasheetDocument: rev1.9, Aug-2003; PackageReference: TQFP64-0.8; Publisher: Altium Limited
footprint TQFP64-0.8 (QFP, Thin; 64 Leads; Body 14 x 14 mm; Pitch 0.8 mm)
pins: 1 PE4 (HS) (io), 2 PE5 (HS) (io), 3 PE6 (HS) (io), 4 PE7 (HS) (io), 5 PB0/PWM3 (io), 6 PB1/PWM2 (io), 7 PB2/PWM1 (io), 8 PB3/PWM0 (io), 9 PB4 (HS)/ARTCLK (io), 10 PB5/ARTIC1 (io), 11 PB6/ARTIC2 (io), 12 PB7 (io), 13 PD0/AIN0 (io), 14 PD1/AIN1 (io), 15 PD2/AIN2 (io), 16 PD3/AIN3 (io), 17 PD4/AIN4 (io), 18 PD5/AIN5 (io), 19 PD6/AIN6 (io), 20 PD7/AIN7 (io), 21 VAREF (in), 22 VSSA (power), 23 VDD_3 (power), 24 VSS_3 (power), 25 PF0/MCO/AIN8 (io), 26 PF1 (HS)/BEEP (io), 27 PF2 (HS) (io), 28 PF3/OCMP2_A/AIN9 (io), 29 PF4/OCMP1_A/AIN10 (io), 30 PF5/ICAP2_A/AIN11 (io), 31 PF6 (HS)/ICAP1_A (io), 32 PF7 (HS)/EXTCLK_A (io), 33 VDD_0 (power), 34 VSS_0 (power), 35 PC0/OCMP2_B/AIN12 (io), 36 PC1/OCMP1_B/AIN13 (io), 37 PC2 (HS)/ICAP2_B (io), 38 PC3 (HS)/ICAP1_B (io), 39 PC4/MISO/ICCDATA (io), 40 PC5/MOSI/AIN14 (io), 41 PC6/SCK/ICCCLK (io), 42 PC7/~{SS}/AIN15 (io), 43 PA0 (io), 44 PA1 (io), 45 PA2 (io), 46 PA3 (HS) (io), 47 VDD_1 (power), 48 VSS_1 (power), 49 PA4 (HS) (io), 50 PA5 (HS) (io), 51 PA6 (HS)/SDAI (io), 52 PA7 (HS)/SCLI (io), 53 VPP/ICCSEL (in), 54 ~{RESET} (io), 55 EVD, 56 TLI (in), 57 VSS_2 (power), 58 OSC2 (out), 59 OSC1 (in), 60 VDD_2 (power), 61 PE0/TDO (io), 62 PE1/RDI (io), 63 PE2/CANTX (io), 64 PE3/CANRX (io)

## ST72F521R9T6
designator U?
8-Bit 60k FLASH MCU with Nested Interrupts, 2048b RAM, 10-Bit ADC, Five Timers, SPI, SCI, I²C and CAN Interfaces, 64-Pin TQFP, Standard; PackageDocument: rev2.4, Jan-2002; Note: Pins 5-12, 25-27 and 43-46 are External Interrupt (EI) pins.; Published: 26-May-2004; DatasheetDocument: rev1.9, Aug-2003; PackageReference: TQFP64-0.8; Publisher: Altium Limited
footprint TQFP64-0.8 (QFP, Thin; 64 Leads; Body 14 x 14 mm; Pitch 0.8 mm)
pins: 1 PE4 (HS) (io), 2 PE5 (HS) (io), 3 PE6 (HS) (io), 4 PE7 (HS) (io), 5 PB0/PWM3 (io), 6 PB1/PWM2 (io), 7 PB2/PWM1 (io), 8 PB3/PWM0 (io), 9 PB4 (HS)/ARTCLK (io), 10 PB5/ARTIC1 (io), 11 PB6/ARTIC2 (io), 12 PB7 (io), 13 PD0/AIN0 (io), 14 PD1/AIN1 (io), 15 PD2/AIN2 (io), 16 PD3/AIN3 (io), 17 PD4/AIN4 (io), 18 PD5/AIN5 (io), 19 PD6/AIN6 (io), 20 PD7/AIN7 (io), 21 VAREF (in), 22 VSSA (power), 23 VDD_3 (power), 24 VSS_3 (power), 25 PF0/MCO/AIN8 (io), 26 PF1 (HS)/BEEP (io), 27 PF2 (HS) (io), 28 PF3/OCMP2_A/AIN9 (io), 29 PF4/OCMP1_A/AIN10 (io), 30 PF5/ICAP2_A/AIN11 (io), 31 PF6 (HS)/ICAP1_A (io), 32 PF7 (HS)/EXTCLK_A (io), 33 VDD_0 (power), 34 VSS_0 (power), 35 PC0/OCMP2_B/AIN12 (io), 36 PC1/OCMP1_B/AIN13 (io), 37 PC2 (HS)/ICAP2_B (io), 38 PC3 (HS)/ICAP1_B (io), 39 PC4/MISO/ICCDATA (io), 40 PC5/MOSI/AIN14 (io), 41 PC6/SCK/ICCCLK (io), 42 PC7/~{SS}/AIN15 (io), 43 PA0 (io), 44 PA1 (io), 45 PA2 (io), 46 PA3 (HS) (io), 47 VDD_1 (power), 48 VSS_1 (power), 49 PA4 (HS) (io), 50 PA5 (HS) (io), 51 PA6 (HS)/SDAI (io), 52 PA7 (HS)/SCLI (io), 53 VPP/ICCSEL (in), 54 ~{RESET} (io), 55 EVD, 56 TLI (in), 57 VSS_2 (power), 58 OSC2 (out), 59 OSC1 (in), 60 VDD_2 (power), 61 PE0/TDO (io), 62 PE1/RDI (io), 63 PE2/CANTX (io), 64 PE3/CANRX (io)